# Altium integrated library Xilinx Spartan-II.IntLib: 120 symbols (part 8 of 15)
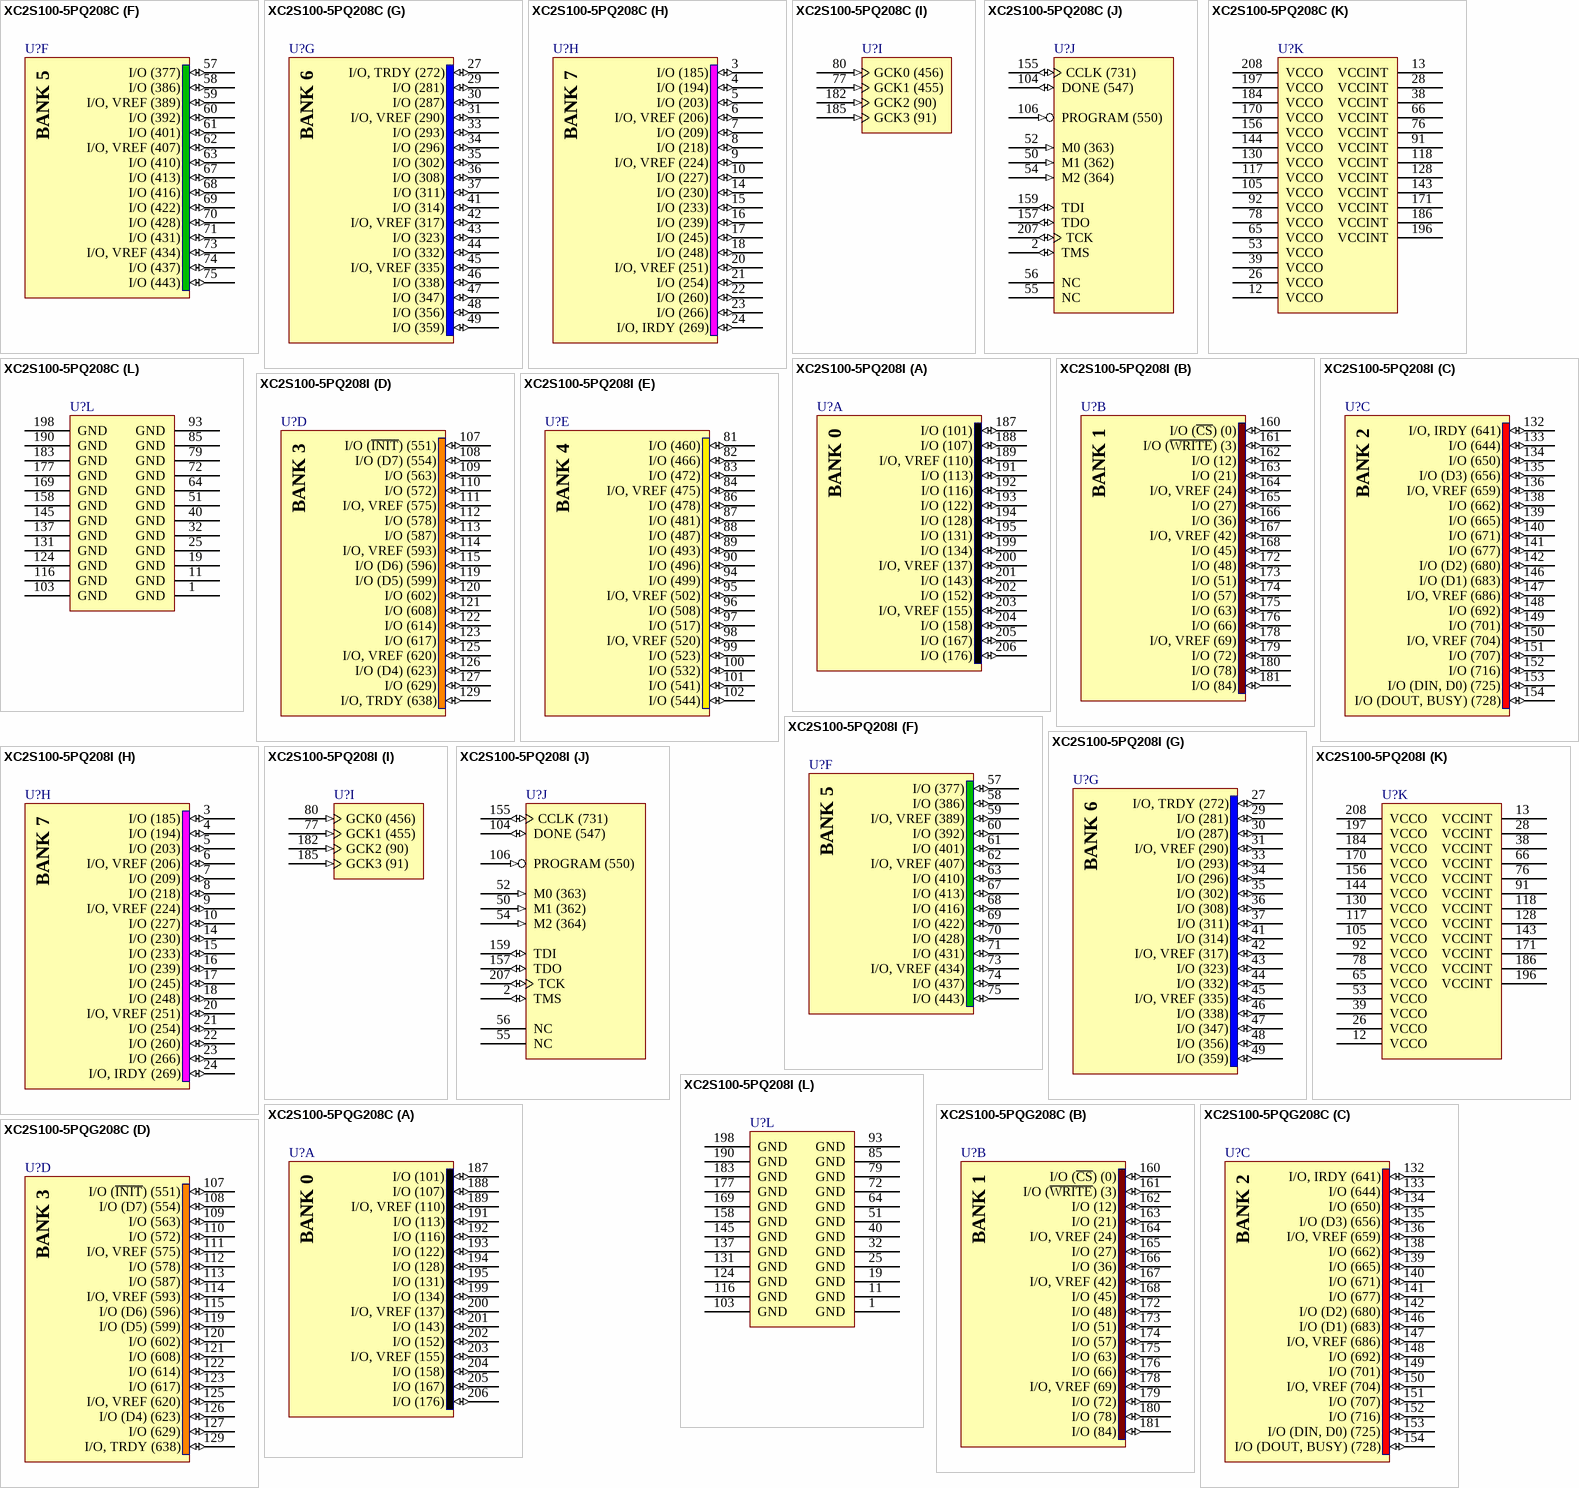
[diagram p78: symbols XC2S100-5PQ208C to XC2S100-5PQG208C]

## XC2S100-5PQ208C
designator U?
Spartan-II 2.5V FPGA, 140 User I/Os, 208-Pin PQFP, Standard Performance, Commercial Grade; Published: 13-Jul-2001; LatestRevisionDate: 16-Nov-2009; LatestRevisionNote: Updated to datasheet version 2.8 Jun-2008.; DatasheetVersion: ver2.8, Jun-2008; PackageVersion: ver1.2, Jun-2004; PackageReference: PQ208; Publisher: Altium Limited; PackageDescription: 208-Pin Plastic Quad Flat Pack (PQ208); Supplier 1: Digi-Key; Supplier Part Number 1: 122-1228-ND; Supplier 2: Newark; Supplier Part Number 2: 57K0438; Code_JEDEC: MS-029-FA-1; ComponentLink1Description: Spartan-II Datasheet; ComponentLink1URL: http://www.xilinx.com/support/documentation/data_sheets/ds001.pdf; ComponentLink2Description: PQ208 Package Drawing; ComponentLink2URL: http://www.xilinx.com/support/documentation/package_specs/pq208.pdf; ComponentLink3Description: Spartan-II Documents; ComponentLink3URL: http://www.xilinx.com/support/documentation/spartan-ii.htm; ComponentLink4Description: Xilinx.com Home; ComponentLink4URL: http://www.xilinx.com
footprint PQ208_N (Shrink QFP, 208-Leads, Body 28x28mm, Pitch 0.5mm, IPC Medium Density)
footprint PQ208_L (Shrink QFP, 208-Leads, Body 28x28mm, Pitch 0.5mm, IPC High Density)
footprint PQ208_M (Shrink QFP, 208-Leads, Body 28x28mm, Pitch 0.5mm, IPC Low Density)
signal-integrity model XC2S100_PQ208 (Spartan-II)
part A pins: 187 I/O (101) (io), 188 I/O (107) (io), 189 I/O, VREF (110) (io), 191 I/O (113) (io), 192 I/O (116) (io), 193 I/O (122) (io), 194 I/O (128) (io), 195 I/O (131) (io), 199 I/O (134) (io), 200 I/O, VREF (137) (io), 201 I/O (143) (io), 202 I/O (152) (io), 203 I/O, VREF (155) (io), 204 I/O (158) (io), 205 I/O (167) (io), 206 I/O (176) (io)
part B pins: 160 I/O (~{CS}) (0) (io), 161 I/O (~{WRITE}) (3) (io), 162 I/O (12) (io), 163 I/O (21) (io), 164 I/O, VREF (24) (io), 165 I/O (27) (io), 166 I/O (36) (io), 167 I/O, VREF (42) (io), 168 I/O (45) (io), 172 I/O (48) (io), 173 I/O (51) (io), 174 I/O (57) (io), 175 I/O (63) (io), 176 I/O (66) (io), 178 I/O, VREF (69) (io), 179 I/O (72) (io), 180 I/O (78) (io), 181 I/O (84) (io)
part C pins: 132 I/O, IRDY (641) (io), 133 I/O (644) (io), 134 I/O (650) (io), 135 I/O (D3) (656) (io), 136 I/O, VREF (659) (io), 138 I/O (662) (io), 139 I/O (665) (io), 140 I/O (671) (io), 141 I/O (677) (io), 142 I/O (D2) (680) (io), 146 I/O (D1) (683) (io), 147 I/O, VREF (686) (io), 148 I/O (692) (io), 149 I/O (701) (io), 150 I/O, VREF (704) (io), 151 I/O (707) (io), 152 I/O (716) (io), 153 I/O (DIN, D0) (725) (io), 154 I/O (DOUT, BUSY) (728) (io)
part D pins: 107 I/O (~{INIT}) (551) (io), 108 I/O (D7) (554) (io), 109 I/O (563) (io), 110 I/O (572) (io), 111 I/O, VREF (575) (io), 112 I/O (578) (io), 113 I/O (587) (io), 114 I/O, VREF (593) (io), 115 I/O (D6) (596) (io), 119 I/O (D5) (599) (io), 120 I/O (602) (io), 121 I/O (608) (io), 122 I/O (614) (io), 123 I/O (617) (io), 125 I/O, VREF (620) (io), 126 I/O (D4) (623) (io), 127 I/O (629) (io), 129 I/O, TRDY (638) (io)
part E pins: 81 I/O (460) (io), 82 I/O (466) (io), 83 I/O (472) (io), 84 I/O, VREF (475) (io), 86 I/O (478) (io), 87 I/O (481) (io), 88 I/O (487) (io), 89 I/O (493) (io), 90 I/O (496) (io), 94 I/O (499) (io), 95 I/O, VREF (502) (io), 96 I/O (508) (io), 97 I/O (517) (io), 98 I/O, VREF (520) (io), 99 I/O (523) (io), 100 I/O (532) (io), 101 I/O (541) (io), 102 I/O (544) (io)
part F pins: 57 I/O (377) (io), 58 I/O (386) (io), 59 I/O, VREF (389) (io), 60 I/O (392) (io), 61 I/O (401) (io), 62 I/O, VREF (407) (io), 63 I/O (410) (io), 67 I/O (413) (io), 68 I/O (416) (io), 69 I/O (422) (io), 70 I/O (428) (io), 71 I/O (431) (io), 73 I/O, VREF (434) (io), 74 I/O (437) (io), 75 I/O (443) (io)
part G pins: 27 I/O, TRDY (272) (io), 29 I/O (281) (io), 30 I/O (287) (io), 31 I/O, VREF (290) (io), 33 I/O (293) (io), 34 I/O (296) (io), 35 I/O (302) (io), 36 I/O (308) (io), 37 I/O (311) (io), 41 I/O (314) (io), 42 I/O, VREF (317) (io), 43 I/O (323) (io), 44 I/O (332) (io), 45 I/O, VREF (335) (io), 46 I/O (338) (io), 47 I/O (347) (io), 48 I/O (356) (io), 49 I/O (359) (io)
part H pins: 3 I/O (185) (io), 4 I/O (194) (io), 5 I/O (203) (io), 6 I/O, VREF (206) (io), 7 I/O (209) (io), 8 I/O (218) (io), 9 I/O, VREF (224) (io), 10 I/O (227) (io), 14 I/O (230) (io), 15 I/O (233) (io), 16 I/O (239) (io), 17 I/O (245) (io), 18 I/O (248) (io), 20 I/O, VREF (251) (io), 21 I/O (254) (io), 22 I/O (260) (io), 23 I/O (266) (io), 24 I/O, IRDY (269) (io)
part I pins: 77 GCK1 (455) (in), 80 GCK0 (456) (in), 182 GCK2 (90) (in), 185 GCK3 (91) (in)
part J pins: 2 TMS (io), 50 M1 (362) (in), 52 M0 (363) (in), 54 M2 (364) (in), 55 NC, 56 NC, 104 DONE (547) (io), 106 PROGRAM (550) (in), 155 CCLK (731) (io), 157 TDO (io), 159 TDI (io), 207 TCK (io)
part K pins: 12 VCCO (power), 13 VCCINT (power), 26 VCCO (power), 28 VCCINT (power), 38 VCCINT (power), 39 VCCO (power), 53 VCCO (power), 65 VCCO (power), 66 VCCINT (power), 76 VCCINT (power), 78 VCCO (power), 91 VCCINT (power), 92 VCCO (power), 105 VCCO (power), 117 VCCO (power), 118 VCCINT (power), 128 VCCINT (power), 130 VCCO (power), 143 VCCINT (power), 144 VCCO (power), 156 VCCO (power), 170 VCCO (power), 171 VCCINT (power), 184 VCCO (power), 186 VCCINT (power), 196 VCCINT (power), 197 VCCO (power), 208 VCCO (power)
part L pins: 1 GND (power), 11 GND (power), 19 GND (power), 25 GND (power), 32 GND (power), 40 GND (power), 51 GND (power), 64 GND (power), 72 GND (power), 79 GND (power), 85 GND (power), 93 GND (power), 103 GND (power), 116 GND (power), 124 GND (power), 131 GND (power), 137 GND (power), 145 GND (power), 158 GND (power), 169 GND (power), 177 GND (power), 183 GND (power), 190 GND (power), 198 GND (power)
part A text: BANK 0
part B text: BANK 1
part C text: BANK 2
part D text: BANK 3
part E text: BANK 4
part F text: BANK 5
part G text: BANK 6
part H text: BANK 7

## XC2S100-5PQ208I
designator U?
Spartan-II 2.5V FPGA, 140 User I/Os, 208-Pin PQFP, Standard Performance, Industrial Grade; Published: 13-Jul-2001; LatestRevisionDate: 16-Nov-2009; LatestRevisionNote: Updated to datasheet version 2.8 Jun-2008.; DatasheetVersion: ver2.8, Jun-2008; PackageVersion: ver1.2, Jun-2004; PackageReference: PQ208; Publisher: Altium Limited; PackageDescription: 208-Pin Plastic Quad Flat Pack (PQ208); Supplier 1: Digi-Key; Supplier Part Number 1: XC2S100-5PQ208I-ND; Code_JEDEC: MS-029-FA-1; ComponentLink1Description: Spartan-II Datasheet; ComponentLink1URL: http://www.xilinx.com/support/documentation/data_sheets/ds001.pdf; ComponentLink2Description: PQ208 Package Drawing; ComponentLink2URL: http://www.xilinx.com/support/documentation/package_specs/pq208.pdf; ComponentLink3Description: Spartan-II Documents; ComponentLink3URL: http://www.xilinx.com/support/documentation/spartan-ii.htm; ComponentLink4Description: Xilinx.com Home; ComponentLink4URL: http://www.xilinx.com
footprint PQ208_N (Shrink QFP, 208-Leads, Body 28x28mm, Pitch 0.5mm, IPC Medium Density)
footprint PQ208_L (Shrink QFP, 208-Leads, Body 28x28mm, Pitch 0.5mm, IPC High Density)
footprint PQ208_M (Shrink QFP, 208-Leads, Body 28x28mm, Pitch 0.5mm, IPC Low Density)
signal-integrity model XC2S100_PQ208 (Spartan-II)
part A pins: 187 I/O (101) (io), 188 I/O (107) (io), 189 I/O, VREF (110) (io), 191 I/O (113) (io), 192 I/O (116) (io), 193 I/O (122) (io), 194 I/O (128) (io), 195 I/O (131) (io), 199 I/O (134) (io), 200 I/O, VREF (137) (io), 201 I/O (143) (io), 202 I/O (152) (io), 203 I/O, VREF (155) (io), 204 I/O (158) (io), 205 I/O (167) (io), 206 I/O (176) (io)
part B pins: 160 I/O (~{CS}) (0) (io), 161 I/O (~{WRITE}) (3) (io), 162 I/O (12) (io), 163 I/O (21) (io), 164 I/O, VREF (24) (io), 165 I/O (27) (io), 166 I/O (36) (io), 167 I/O, VREF (42) (io), 168 I/O (45) (io), 172 I/O (48) (io), 173 I/O (51) (io), 174 I/O (57) (io), 175 I/O (63) (io), 176 I/O (66) (io), 178 I/O, VREF (69) (io), 179 I/O (72) (io), 180 I/O (78) (io), 181 I/O (84) (io)
part C pins: 132 I/O, IRDY (641) (io), 133 I/O (644) (io), 134 I/O (650) (io), 135 I/O (D3) (656) (io), 136 I/O, VREF (659) (io), 138 I/O (662) (io), 139 I/O (665) (io), 140 I/O (671) (io), 141 I/O (677) (io), 142 I/O (D2) (680) (io), 146 I/O (D1) (683) (io), 147 I/O, VREF (686) (io), 148 I/O (692) (io), 149 I/O (701) (io), 150 I/O, VREF (704) (io), 151 I/O (707) (io), 152 I/O (716) (io), 153 I/O (DIN, D0) (725) (io), 154 I/O (DOUT, BUSY) (728) (io)
part D pins: 107 I/O (~{INIT}) (551) (io), 108 I/O (D7) (554) (io), 109 I/O (563) (io), 110 I/O (572) (io), 111 I/O, VREF (575) (io), 112 I/O (578) (io), 113 I/O (587) (io), 114 I/O, VREF (593) (io), 115 I/O (D6) (596) (io), 119 I/O (D5) (599) (io), 120 I/O (602) (io), 121 I/O (608) (io), 122 I/O (614) (io), 123 I/O (617) (io), 125 I/O, VREF (620) (io), 126 I/O (D4) (623) (io), 127 I/O (629) (io), 129 I/O, TRDY (638) (io)
part E pins: 81 I/O (460) (io), 82 I/O (466) (io), 83 I/O (472) (io), 84 I/O, VREF (475) (io), 86 I/O (478) (io), 87 I/O (481) (io), 88 I/O (487) (io), 89 I/O (493) (io), 90 I/O (496) (io), 94 I/O (499) (io), 95 I/O, VREF (502) (io), 96 I/O (508) (io), 97 I/O (517) (io), 98 I/O, VREF (520) (io), 99 I/O (523) (io), 100 I/O (532) (io), 101 I/O (541) (io), 102 I/O (544) (io)
part F pins: 57 I/O (377) (io), 58 I/O (386) (io), 59 I/O, VREF (389) (io), 60 I/O (392) (io), 61 I/O (401) (io), 62 I/O, VREF (407) (io), 63 I/O (410) (io), 67 I/O (413) (io), 68 I/O (416) (io), 69 I/O (422) (io), 70 I/O (428) (io), 71 I/O (431) (io), 73 I/O, VREF (434) (io), 74 I/O (437) (io), 75 I/O (443) (io)
part G pins: 27 I/O, TRDY (272) (io), 29 I/O (281) (io), 30 I/O (287) (io), 31 I/O, VREF (290) (io), 33 I/O (293) (io), 34 I/O (296) (io), 35 I/O (302) (io), 36 I/O (308) (io), 37 I/O (311) (io), 41 I/O (314) (io), 42 I/O, VREF (317) (io), 43 I/O (323) (io), 44 I/O (332) (io), 45 I/O, VREF (335) (io), 46 I/O (338) (io), 47 I/O (347) (io), 48 I/O (356) (io), 49 I/O (359) (io)
part H pins: 3 I/O (185) (io), 4 I/O (194) (io), 5 I/O (203) (io), 6 I/O, VREF (206) (io), 7 I/O (209) (io), 8 I/O (218) (io), 9 I/O, VREF (224) (io), 10 I/O (227) (io), 14 I/O (230) (io), 15 I/O (233) (io), 16 I/O (239) (io), 17 I/O (245) (io), 18 I/O (248) (io), 20 I/O, VREF (251) (io), 21 I/O (254) (io), 22 I/O (260) (io), 23 I/O (266) (io), 24 I/O, IRDY (269) (io)
part I pins: 77 GCK1 (455) (in), 80 GCK0 (456) (in), 182 GCK2 (90) (in), 185 GCK3 (91) (in)
part J pins: 2 TMS (io), 50 M1 (362) (in), 52 M0 (363) (in), 54 M2 (364) (in), 55 NC, 56 NC, 104 DONE (547) (io), 106 PROGRAM (550) (in), 155 CCLK (731) (io), 157 TDO (io), 159 TDI (io), 207 TCK (io)
part K pins: 12 VCCO (power), 13 VCCINT (power), 26 VCCO (power), 28 VCCINT (power), 38 VCCINT (power), 39 VCCO (power), 53 VCCO (power), 65 VCCO (power), 66 VCCINT (power), 76 VCCINT (power), 78 VCCO (power), 91 VCCINT (power), 92 VCCO (power), 105 VCCO (power), 117 VCCO (power), 118 VCCINT (power), 128 VCCINT (power), 130 VCCO (power), 143 VCCINT (power), 144 VCCO (power), 156 VCCO (power), 170 VCCO (power), 171 VCCINT (power), 184 VCCO (power), 186 VCCINT (power), 196 VCCINT (power), 197 VCCO (power), 208 VCCO (power)
part L pins: 1 GND (power), 11 GND (power), 19 GND (power), 25 GND (power), 32 GND (power), 40 GND (power), 51 GND (power), 64 GND (power), 72 GND (power), 79 GND (power), 85 GND (power), 93 GND (power), 103 GND (power), 116 GND (power), 124 GND (power), 131 GND (power), 137 GND (power), 145 GND (power), 158 GND (power), 169 GND (power), 177 GND (power), 183 GND (power), 190 GND (power), 198 GND (power)
part A text: BANK 0
part B text: BANK 1
part C text: BANK 2
part D text: BANK 3
part E text: BANK 4
part F text: BANK 5
part G text: BANK 6
part H text: BANK 7

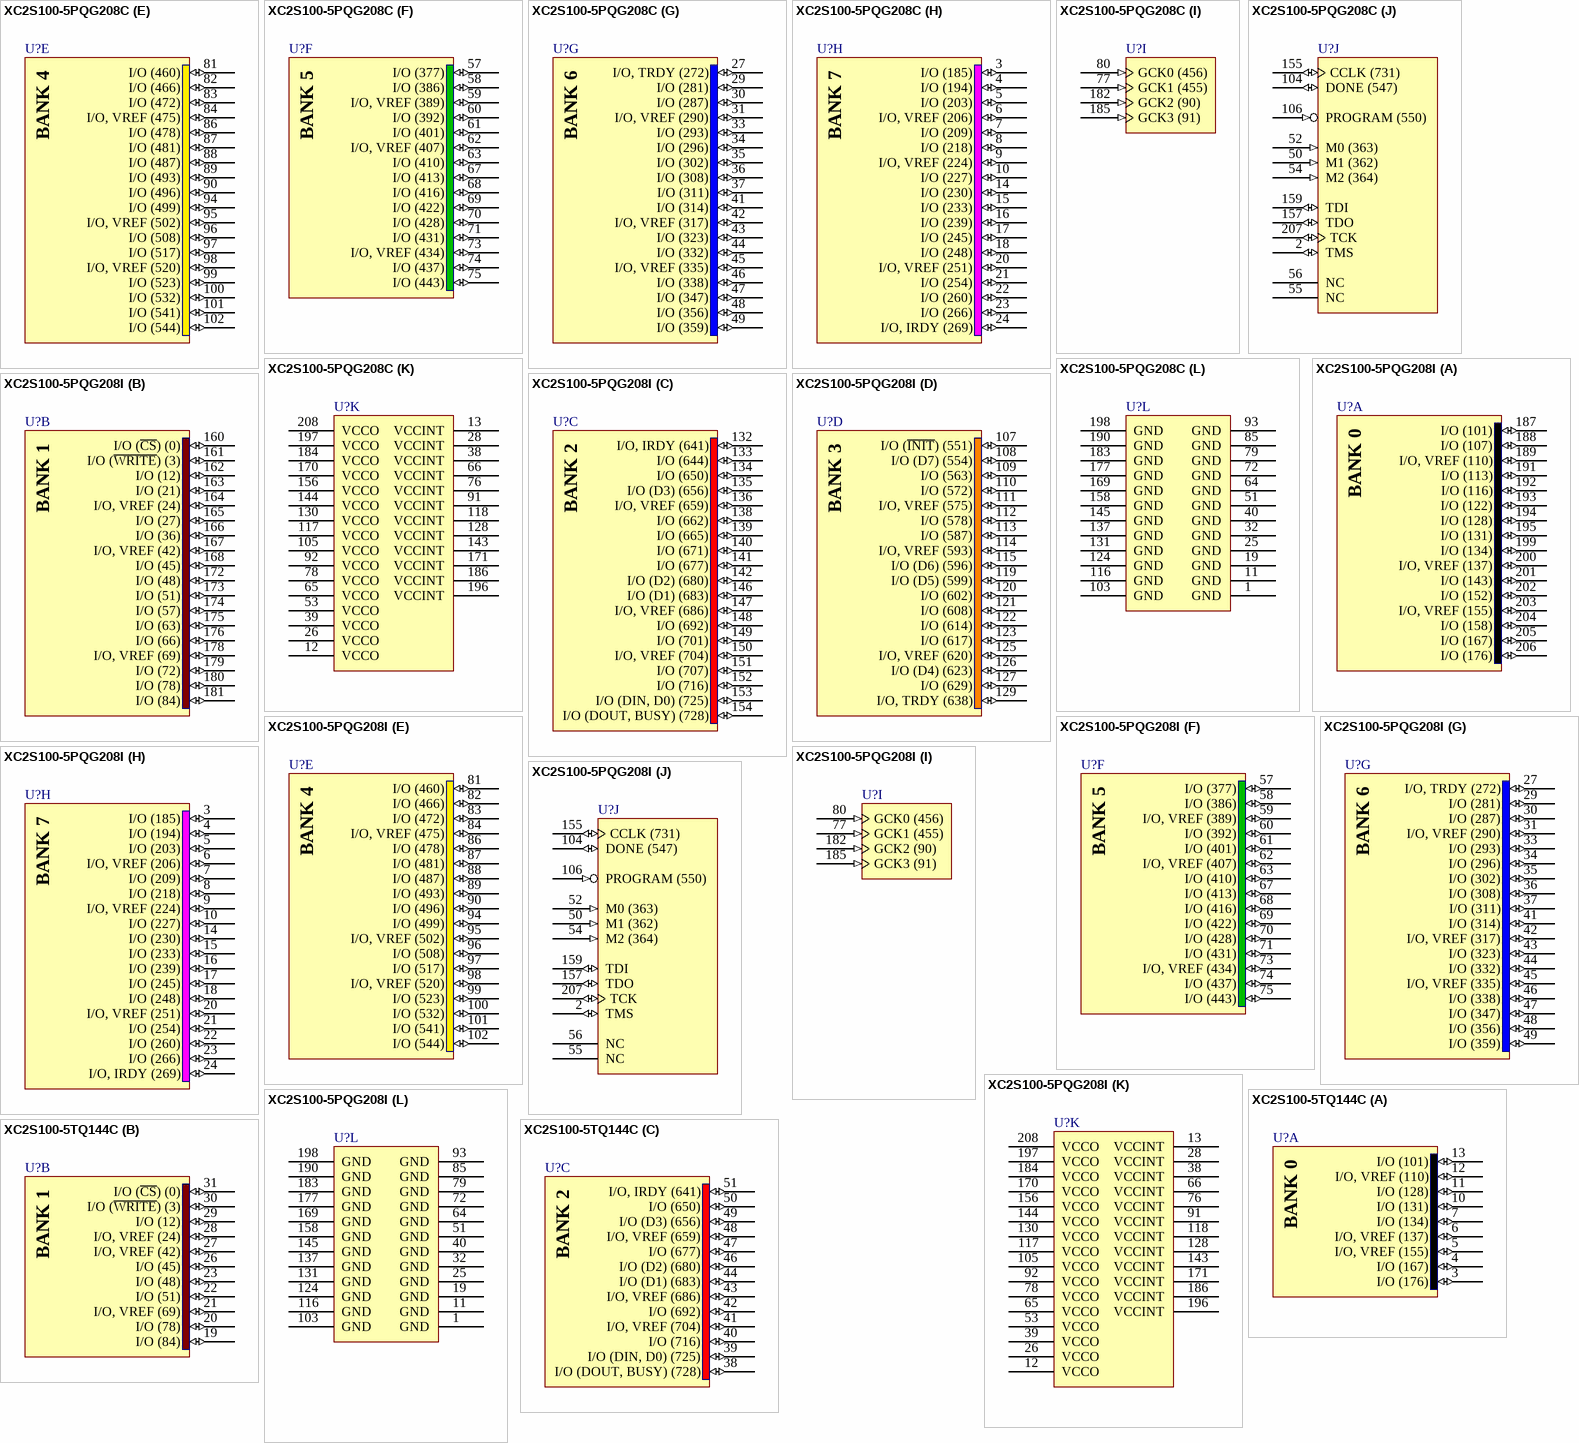
[diagram p35: symbols XC2S100-5PQG208C to XC2S100-5TQ144C]

## XC2S100-5PQG208C
designator U?
Spartan-II 2.5V FPGA, 140 User I/Os, 208-Pin PQFP, Standard Performance, Commercial Grade, Pb-Free; Published: 2-Mar-2006; LatestRevisionDate: 16-Nov-2009; LatestRevisionNote: Updated to datasheet version 2.8 Jun-2008.; DatasheetVersion: ver2.8, Jun-2008; PackageVersion: ver1.2, Jun-2004; PackageReference: PQG208; Publisher: Altium Limited; PackageDescription: 208-Pin Plastic Quad Flat Pack (PQG208) - Pb-Free; Supplier 1: Digi-Key; Supplier Part Number 1: 122-1304-ND; Supplier 2: Newark; Supplier Part Number 2: 20M0880; Code_JEDEC: MS-029-FA-1; ComponentLink1Description: Spartan-II Datasheet; ComponentLink1URL: http://www.xilinx.com/support/documentation/data_sheets/ds001.pdf; ComponentLink2Description: PQG208 Package Drawing; ComponentLink2URL: http://www.xilinx.com/support/documentation/package_specs/pq208.pdf; ComponentLink3Description: Spartan-II Documents; ComponentLink3URL: http://www.xilinx.com/support/documentation/spartan-ii.htm; ComponentLink4Description: Xilinx.com Home; ComponentLink4URL: http://www.xilinx.com
footprint PQG208_N (Shrink QFP, 208-Leads, Body 28x28mm, Pitch 0.5mm, IPC Medium Density)
footprint PQG208_L (Shrink QFP, 208-Leads, Body 28x28mm, Pitch 0.5mm, IPC High Density)
footprint PQG208_M (Shrink QFP, 208-Leads, Body 28x28mm, Pitch 0.5mm, IPC Low Density)
signal-integrity model XC2S100_PQG208 (Spartan-II)
part A pins: 187 I/O (101) (io), 188 I/O (107) (io), 189 I/O, VREF (110) (io), 191 I/O (113) (io), 192 I/O (116) (io), 193 I/O (122) (io), 194 I/O (128) (io), 195 I/O (131) (io), 199 I/O (134) (io), 200 I/O, VREF (137) (io), 201 I/O (143) (io), 202 I/O (152) (io), 203 I/O, VREF (155) (io), 204 I/O (158) (io), 205 I/O (167) (io), 206 I/O (176) (io)
part B pins: 160 I/O (~{CS}) (0) (io), 161 I/O (~{WRITE}) (3) (io), 162 I/O (12) (io), 163 I/O (21) (io), 164 I/O, VREF (24) (io), 165 I/O (27) (io), 166 I/O (36) (io), 167 I/O, VREF (42) (io), 168 I/O (45) (io), 172 I/O (48) (io), 173 I/O (51) (io), 174 I/O (57) (io), 175 I/O (63) (io), 176 I/O (66) (io), 178 I/O, VREF (69) (io), 179 I/O (72) (io), 180 I/O (78) (io), 181 I/O (84) (io)
part C pins: 132 I/O, IRDY (641) (io), 133 I/O (644) (io), 134 I/O (650) (io), 135 I/O (D3) (656) (io), 136 I/O, VREF (659) (io), 138 I/O (662) (io), 139 I/O (665) (io), 140 I/O (671) (io), 141 I/O (677) (io), 142 I/O (D2) (680) (io), 146 I/O (D1) (683) (io), 147 I/O, VREF (686) (io), 148 I/O (692) (io), 149 I/O (701) (io), 150 I/O, VREF (704) (io), 151 I/O (707) (io), 152 I/O (716) (io), 153 I/O (DIN, D0) (725) (io), 154 I/O (DOUT, BUSY) (728) (io)
part D pins: 107 I/O (~{INIT}) (551) (io), 108 I/O (D7) (554) (io), 109 I/O (563) (io), 110 I/O (572) (io), 111 I/O, VREF (575) (io), 112 I/O (578) (io), 113 I/O (587) (io), 114 I/O, VREF (593) (io), 115 I/O (D6) (596) (io), 119 I/O (D5) (599) (io), 120 I/O (602) (io), 121 I/O (608) (io), 122 I/O (614) (io), 123 I/O (617) (io), 125 I/O, VREF (620) (io), 126 I/O (D4) (623) (io), 127 I/O (629) (io), 129 I/O, TRDY (638) (io)
part E pins: 81 I/O (460) (io), 82 I/O (466) (io), 83 I/O (472) (io), 84 I/O, VREF (475) (io), 86 I/O (478) (io), 87 I/O (481) (io), 88 I/O (487) (io), 89 I/O (493) (io), 90 I/O (496) (io), 94 I/O (499) (io), 95 I/O, VREF (502) (io), 96 I/O (508) (io), 97 I/O (517) (io), 98 I/O, VREF (520) (io), 99 I/O (523) (io), 100 I/O (532) (io), 101 I/O (541) (io), 102 I/O (544) (io)
part F pins: 57 I/O (377) (io), 58 I/O (386) (io), 59 I/O, VREF (389) (io), 60 I/O (392) (io), 61 I/O (401) (io), 62 I/O, VREF (407) (io), 63 I/O (410) (io), 67 I/O (413) (io), 68 I/O (416) (io), 69 I/O (422) (io), 70 I/O (428) (io), 71 I/O (431) (io), 73 I/O, VREF (434) (io), 74 I/O (437) (io), 75 I/O (443) (io)
part G pins: 27 I/O, TRDY (272) (io), 29 I/O (281) (io), 30 I/O (287) (io), 31 I/O, VREF (290) (io), 33 I/O (293) (io), 34 I/O (296) (io), 35 I/O (302) (io), 36 I/O (308) (io), 37 I/O (311) (io), 41 I/O (314) (io), 42 I/O, VREF (317) (io), 43 I/O (323) (io), 44 I/O (332) (io), 45 I/O, VREF (335) (io), 46 I/O (338) (io), 47 I/O (347) (io), 48 I/O (356) (io), 49 I/O (359) (io)
part H pins: 3 I/O (185) (io), 4 I/O (194) (io), 5 I/O (203) (io), 6 I/O, VREF (206) (io), 7 I/O (209) (io), 8 I/O (218) (io), 9 I/O, VREF (224) (io), 10 I/O (227) (io), 14 I/O (230) (io), 15 I/O (233) (io), 16 I/O (239) (io), 17 I/O (245) (io), 18 I/O (248) (io), 20 I/O, VREF (251) (io), 21 I/O (254) (io), 22 I/O (260) (io), 23 I/O (266) (io), 24 I/O, IRDY (269) (io)
part I pins: 77 GCK1 (455) (in), 80 GCK0 (456) (in), 182 GCK2 (90) (in), 185 GCK3 (91) (in)
part J pins: 2 TMS (io), 50 M1 (362) (in), 52 M0 (363) (in), 54 M2 (364) (in), 55 NC, 56 NC, 104 DONE (547) (io), 106 PROGRAM (550) (in), 155 CCLK (731) (io), 157 TDO (io), 159 TDI (io), 207 TCK (io)
part K pins: 12 VCCO (power), 13 VCCINT (power), 26 VCCO (power), 28 VCCINT (power), 38 VCCINT (power), 39 VCCO (power), 53 VCCO (power), 65 VCCO (power), 66 VCCINT (power), 76 VCCINT (power), 78 VCCO (power), 91 VCCINT (power), 92 VCCO (power), 105 VCCO (power), 117 VCCO (power), 118 VCCINT (power), 128 VCCINT (power), 130 VCCO (power), 143 VCCINT (power), 144 VCCO (power), 156 VCCO (power), 170 VCCO (power), 171 VCCINT (power), 184 VCCO (power), 186 VCCINT (power), 196 VCCINT (power), 197 VCCO (power), 208 VCCO (power)
part L pins: 1 GND (power), 11 GND (power), 19 GND (power), 25 GND (power), 32 GND (power), 40 GND (power), 51 GND (power), 64 GND (power), 72 GND (power), 79 GND (power), 85 GND (power), 93 GND (power), 103 GND (power), 116 GND (power), 124 GND (power), 131 GND (power), 137 GND (power), 145 GND (power), 158 GND (power), 169 GND (power), 177 GND (power), 183 GND (power), 190 GND (power), 198 GND (power)
part A text: BANK 0
part B text: BANK 1
part C text: BANK 2
part D text: BANK 3
part E text: BANK 4
part F text: BANK 5
part G text: BANK 6
part H text: BANK 7

## XC2S100-5PQG208I
designator U?
Spartan-II 2.5V FPGA, 140 User I/Os, 208-Pin PQFP, Standard Performance, Industrial Grade, Pb-Free; Published: 2-Mar-2006; LatestRevisionDate: 16-Nov-2009; LatestRevisionNote: Updated to datasheet version 2.8 Jun-2008.; DatasheetVersion: ver2.8, Jun-2008; PackageVersion: ver1.2, Jun-2004; PackageReference: PQG208; Publisher: Altium Limited; PackageDescription: 208-Pin Plastic Quad Flat Pack (PQG208) - Pb-Free; Code_JEDEC: MS-029-FA-1; ComponentLink1Description: Spartan-II Datasheet; ComponentLink1URL: http://www.xilinx.com/support/documentation/data_sheets/ds001.pdf; ComponentLink2Description: PQG208 Package Drawing; ComponentLink2URL: http://www.xilinx.com/support/documentation/package_specs/pq208.pdf; ComponentLink3Description: Spartan-II Documents; ComponentLink3URL: http://www.xilinx.com/support/documentation/spartan-ii.htm; ComponentLink4Description: Xilinx.com Home; ComponentLink4URL: http://www.xilinx.com
footprint PQG208_N (Shrink QFP, 208-Leads, Body 28x28mm, Pitch 0.5mm, IPC Medium Density)
footprint PQG208_L (Shrink QFP, 208-Leads, Body 28x28mm, Pitch 0.5mm, IPC High Density)
footprint PQG208_M (Shrink QFP, 208-Leads, Body 28x28mm, Pitch 0.5mm, IPC Low Density)
signal-integrity model XC2S100_PQG208 (Spartan-II)
part A pins: 187 I/O (101) (io), 188 I/O (107) (io), 189 I/O, VREF (110) (io), 191 I/O (113) (io), 192 I/O (116) (io), 193 I/O (122) (io), 194 I/O (128) (io), 195 I/O (131) (io), 199 I/O (134) (io), 200 I/O, VREF (137) (io), 201 I/O (143) (io), 202 I/O (152) (io), 203 I/O, VREF (155) (io), 204 I/O (158) (io), 205 I/O (167) (io), 206 I/O (176) (io)
part B pins: 160 I/O (~{CS}) (0) (io), 161 I/O (~{WRITE}) (3) (io), 162 I/O (12) (io), 163 I/O (21) (io), 164 I/O, VREF (24) (io), 165 I/O (27) (io), 166 I/O (36) (io), 167 I/O, VREF (42) (io), 168 I/O (45) (io), 172 I/O (48) (io), 173 I/O (51) (io), 174 I/O (57) (io), 175 I/O (63) (io), 176 I/O (66) (io), 178 I/O, VREF (69) (io), 179 I/O (72) (io), 180 I/O (78) (io), 181 I/O (84) (io)
part C pins: 132 I/O, IRDY (641) (io), 133 I/O (644) (io), 134 I/O (650) (io), 135 I/O (D3) (656) (io), 136 I/O, VREF (659) (io), 138 I/O (662) (io), 139 I/O (665) (io), 140 I/O (671) (io), 141 I/O (677) (io), 142 I/O (D2) (680) (io), 146 I/O (D1) (683) (io), 147 I/O, VREF (686) (io), 148 I/O (692) (io), 149 I/O (701) (io), 150 I/O, VREF (704) (io), 151 I/O (707) (io), 152 I/O (716) (io), 153 I/O (DIN, D0) (725) (io), 154 I/O (DOUT, BUSY) (728) (io)
part D pins: 107 I/O (~{INIT}) (551) (io), 108 I/O (D7) (554) (io), 109 I/O (563) (io), 110 I/O (572) (io), 111 I/O, VREF (575) (io), 112 I/O (578) (io), 113 I/O (587) (io), 114 I/O, VREF (593) (io), 115 I/O (D6) (596) (io), 119 I/O (D5) (599) (io), 120 I/O (602) (io), 121 I/O (608) (io), 122 I/O (614) (io), 123 I/O (617) (io), 125 I/O, VREF (620) (io), 126 I/O (D4) (623) (io), 127 I/O (629) (io), 129 I/O, TRDY (638) (io)
part E pins: 81 I/O (460) (io), 82 I/O (466) (io), 83 I/O (472) (io), 84 I/O, VREF (475) (io), 86 I/O (478) (io), 87 I/O (481) (io), 88 I/O (487) (io), 89 I/O (493) (io), 90 I/O (496) (io), 94 I/O (499) (io), 95 I/O, VREF (502) (io), 96 I/O (508) (io), 97 I/O (517) (io), 98 I/O, VREF (520) (io), 99 I/O (523) (io), 100 I/O (532) (io), 101 I/O (541) (io), 102 I/O (544) (io)
part F pins: 57 I/O (377) (io), 58 I/O (386) (io), 59 I/O, VREF (389) (io), 60 I/O (392) (io), 61 I/O (401) (io), 62 I/O, VREF (407) (io), 63 I/O (410) (io), 67 I/O (413) (io), 68 I/O (416) (io), 69 I/O (422) (io), 70 I/O (428) (io), 71 I/O (431) (io), 73 I/O, VREF (434) (io), 74 I/O (437) (io), 75 I/O (443) (io)
part G pins: 27 I/O, TRDY (272) (io), 29 I/O (281) (io), 30 I/O (287) (io), 31 I/O, VREF (290) (io), 33 I/O (293) (io), 34 I/O (296) (io), 35 I/O (302) (io), 36 I/O (308) (io), 37 I/O (311) (io), 41 I/O (314) (io), 42 I/O, VREF (317) (io), 43 I/O (323) (io), 44 I/O (332) (io), 45 I/O, VREF (335) (io), 46 I/O (338) (io), 47 I/O (347) (io), 48 I/O (356) (io), 49 I/O (359) (io)
part H pins: 3 I/O (185) (io), 4 I/O (194) (io), 5 I/O (203) (io), 6 I/O, VREF (206) (io), 7 I/O (209) (io), 8 I/O (218) (io), 9 I/O, VREF (224) (io), 10 I/O (227) (io), 14 I/O (230) (io), 15 I/O (233) (io), 16 I/O (239) (io), 17 I/O (245) (io), 18 I/O (248) (io), 20 I/O, VREF (251) (io), 21 I/O (254) (io), 22 I/O (260) (io), 23 I/O (266) (io), 24 I/O, IRDY (269) (io)
part I pins: 77 GCK1 (455) (in), 80 GCK0 (456) (in), 182 GCK2 (90) (in), 185 GCK3 (91) (in)
part J pins: 2 TMS (io), 50 M1 (362) (in), 52 M0 (363) (in), 54 M2 (364) (in), 55 NC, 56 NC, 104 DONE (547) (io), 106 PROGRAM (550) (in), 155 CCLK (731) (io), 157 TDO (io), 159 TDI (io), 207 TCK (io)
part K pins: 12 VCCO (power), 13 VCCINT (power), 26 VCCO (power), 28 VCCINT (power), 38 VCCINT (power), 39 VCCO (power), 53 VCCO (power), 65 VCCO (power), 66 VCCINT (power), 76 VCCINT (power), 78 VCCO (power), 91 VCCINT (power), 92 VCCO (power), 105 VCCO (power), 117 VCCO (power), 118 VCCINT (power), 128 VCCINT (power), 130 VCCO (power), 143 VCCINT (power), 144 VCCO (power), 156 VCCO (power), 170 VCCO (power), 171 VCCINT (power), 184 VCCO (power), 186 VCCINT (power), 196 VCCINT (power), 197 VCCO (power), 208 VCCO (power)
part L pins: 1 GND (power), 11 GND (power), 19 GND (power), 25 GND (power), 32 GND (power), 40 GND (power), 51 GND (power), 64 GND (power), 72 GND (power), 79 GND (power), 85 GND (power), 93 GND (power), 103 GND (power), 116 GND (power), 124 GND (power), 131 GND (power), 137 GND (power), 145 GND (power), 158 GND (power), 169 GND (power), 177 GND (power), 183 GND (power), 190 GND (power), 198 GND (power)
part A text: BANK 0
part B text: BANK 1
part C text: BANK 2
part D text: BANK 3
part E text: BANK 4
part F text: BANK 5
part G text: BANK 6
part H text: BANK 7

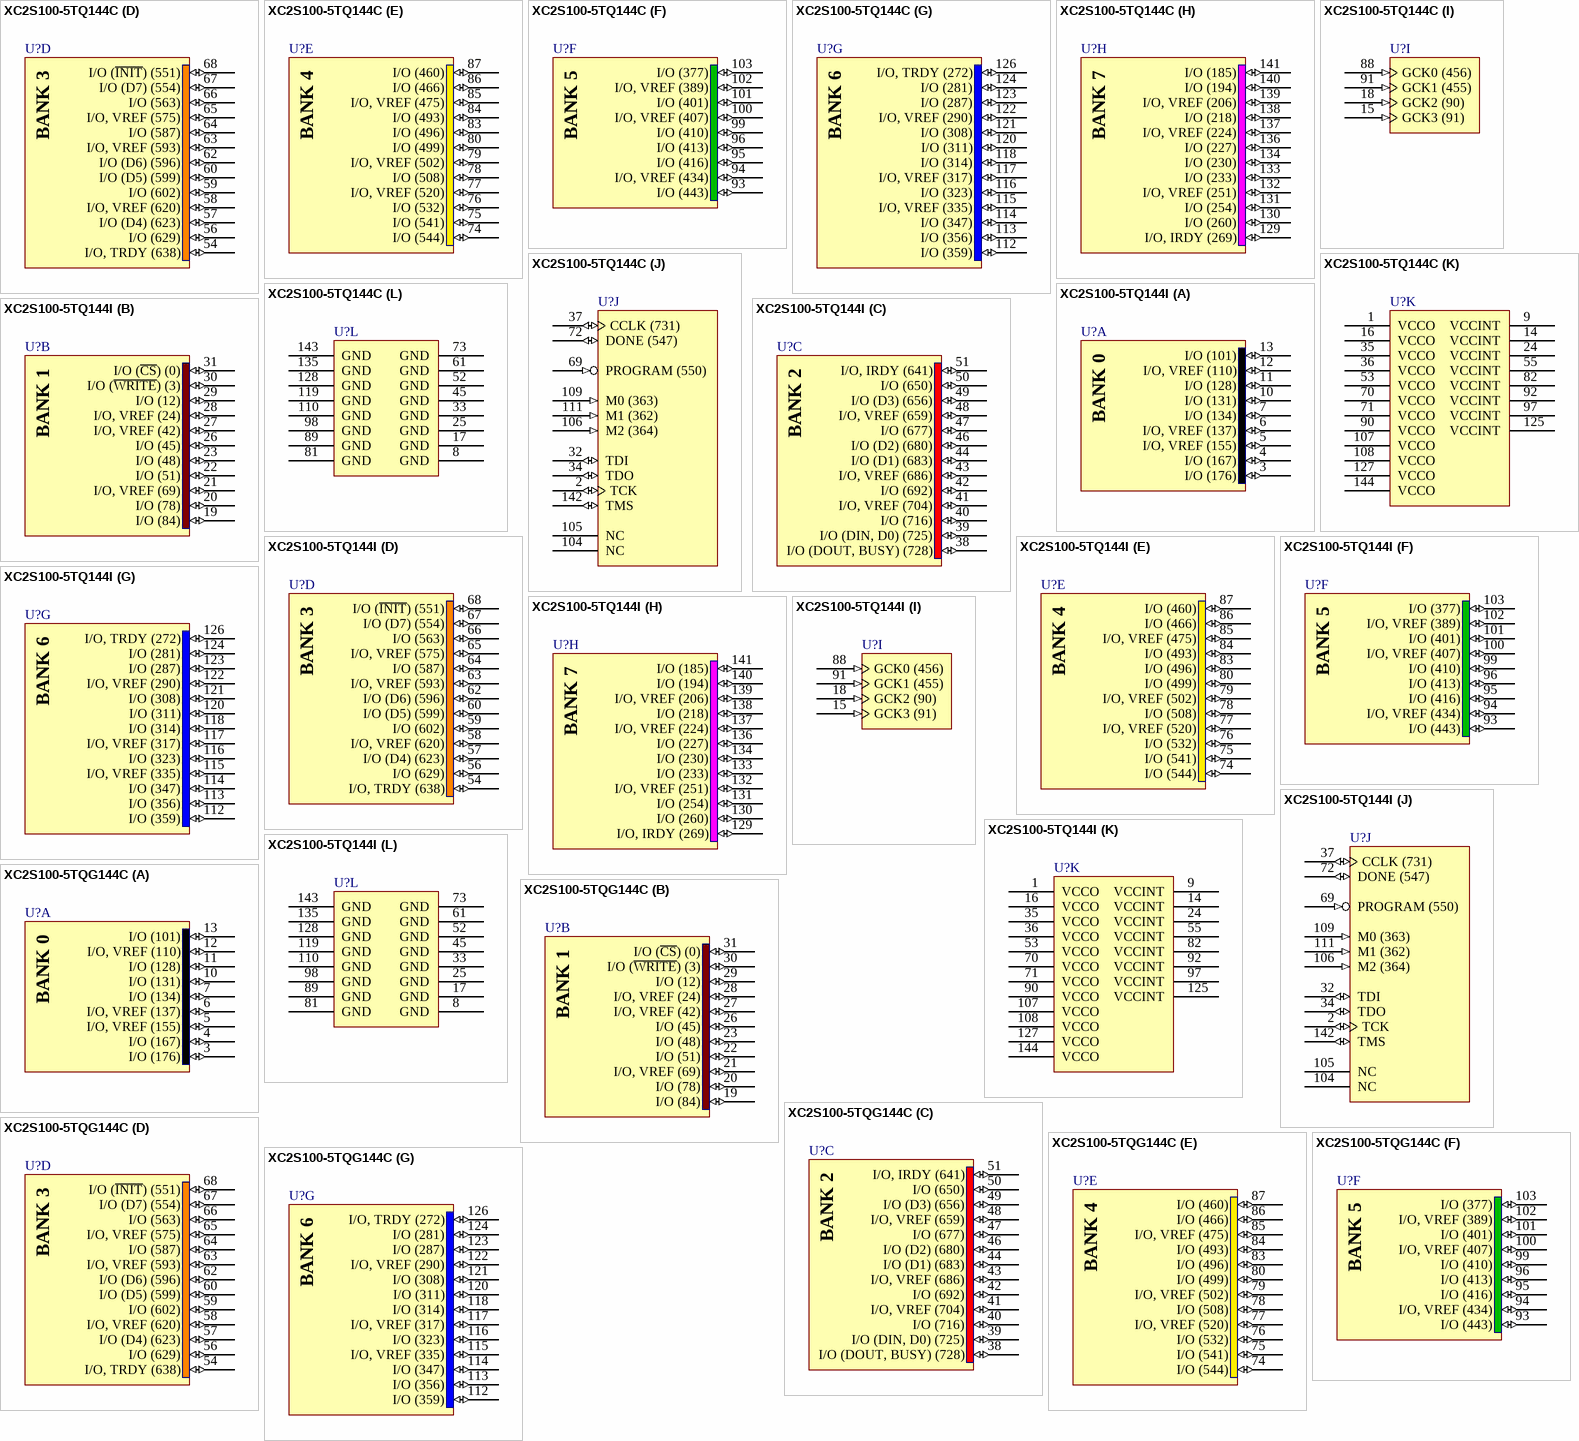
[diagram p36: symbols XC2S100-5TQ144C to XC2S100-5TQG144C]

## XC2S100-5TQ144C
designator U?
Spartan-II 2.5V FPGA, 92 User I/Os, 144-Pin TQFP, Standard Performance, Commercial Grade; Published: 13-Jul-2001; LatestRevisionDate: 16-Nov-2009; LatestRevisionNote: Updated to datasheet version 2.8 Jun-2008.; DatasheetVersion: ver2.8, Jun-2008; PackageVersion: ver1.2, Jun-2004; PackageReference: TQ144; Publisher: Altium Limited; PackageDescription: 144-Pin Thin Quad Flat Pack (TQ144); Supplier 1: Digi-Key; Supplier Part Number 1: 122-1229-ND; Supplier 2: Newark; Supplier Part Number 2: 57J4522; Code_JEDEC: MS-026-BFB; ComponentLink1Description: Spartan-II Datasheet; ComponentLink1URL: http://www.xilinx.com/support/documentation/data_sheets/ds001.pdf; ComponentLink2Description: TQ144 Package Drawing; ComponentLink2URL: http://www.xilinx.com/support/documentation/package_specs/tq144.pdf; ComponentLink3Description: Spartan-II Documents; ComponentLink3URL: http://www.xilinx.com/support/documentation/spartan-ii.htm; ComponentLink4Description: Xilinx.com Home; ComponentLink4URL: http://www.xilinx.com
footprint TQ144_N (Thin QFP, 144-Leads, Body 20x20mm, Pitch 0.5mm, IPC Medium Density)
footprint TQ144_L (Thin QFP, 144-Leads, Body 20x20mm, Pitch 0.5mm, IPC High Density)
footprint TQ144_M (Thin QFP, 144-Leads, Body 20x20mm, Pitch 0.5mm, IPC Low Density)
signal-integrity model XC2S100_TQ144 (Spartan-II)
part A pins: 3 I/O (176) (io), 4 I/O (167) (io), 5 I/O, VREF (155) (io), 6 I/O, VREF (137) (io), 7 I/O (134) (io), 10 I/O (131) (io), 11 I/O (128) (io), 12 I/O, VREF (110) (io), 13 I/O (101) (io)
part B pins: 19 I/O (84) (io), 20 I/O (78) (io), 21 I/O, VREF (69) (io), 22 I/O (51) (io), 23 I/O (48) (io), 26 I/O (45) (io), 27 I/O, VREF (42) (io), 28 I/O, VREF (24) (io), 29 I/O (12) (io), 30 I/O (~{WRITE}) (3) (io), 31 I/O (~{CS}) (0) (io)
part C pins: 38 I/O (DOUT, BUSY) (728) (io), 39 I/O (DIN, D0) (725) (io), 40 I/O (716) (io), 41 I/O, VREF (704) (io), 42 I/O (692) (io), 43 I/O, VREF (686) (io), 44 I/O (D1) (683) (io), 46 I/O (D2) (680) (io), 47 I/O (677) (io), 48 I/O, VREF (659) (io), 49 I/O (D3) (656) (io), 50 I/O (650) (io), 51 I/O, IRDY (641) (io)
part D pins: 54 I/O, TRDY (638) (io), 56 I/O (629) (io), 57 I/O (D4) (623) (io), 58 I/O, VREF (620) (io), 59 I/O (602) (io), 60 I/O (D5) (599) (io), 62 I/O (D6) (596) (io), 63 I/O, VREF (593) (io), 64 I/O (587) (io), 65 I/O, VREF (575) (io), 66 I/O (563) (io), 67 I/O (D7) (554) (io), 68 I/O (~{INIT}) (551) (io)
part E pins: 74 I/O (544) (io), 75 I/O (541) (io), 76 I/O (532) (io), 77 I/O, VREF (520) (io), 78 I/O (508) (io), 79 I/O, VREF (502) (io), 80 I/O (499) (io), 83 I/O (496) (io), 84 I/O (493) (io), 85 I/O, VREF (475) (io), 86 I/O (466) (io), 87 I/O (460) (io)
part F pins: 93 I/O (443) (io), 94 I/O, VREF (434) (io), 95 I/O (416) (io), 96 I/O (413) (io), 99 I/O (410) (io), 100 I/O, VREF (407) (io), 101 I/O (401) (io), 102 I/O, VREF (389) (io), 103 I/O (377) (io)
part G pins: 112 I/O (359) (io), 113 I/O (356) (io), 114 I/O (347) (io), 115 I/O, VREF (335) (io), 116 I/O (323) (io), 117 I/O, VREF (317) (io), 118 I/O (314) (io), 120 I/O (311) (io), 121 I/O (308) (io), 122 I/O, VREF (290) (io), 123 I/O (287) (io), 124 I/O (281) (io), 126 I/O, TRDY (272) (io)
part H pins: 129 I/O, IRDY (269) (io), 130 I/O (260) (io), 131 I/O (254) (io), 132 I/O, VREF (251) (io), 133 I/O (233) (io), 134 I/O (230) (io), 136 I/O (227) (io), 137 I/O, VREF (224) (io), 138 I/O (218) (io), 139 I/O, VREF (206) (io), 140 I/O (194) (io), 141 I/O (185) (io)
part I pins: 15 GCK3 (91) (in), 18 GCK2 (90) (in), 88 GCK0 (456) (in), 91 GCK1 (455) (in)
part J pins: 2 TCK (io), 32 TDI (io), 34 TDO (io), 37 CCLK (731) (io), 69 PROGRAM (550) (in), 72 DONE (547) (io), 104 NC, 105 NC, 106 M2 (364) (in), 109 M0 (363) (in), 111 M1 (362) (in), 142 TMS (io)
part K pins: 1 VCCO (power), 9 VCCINT (power), 14 VCCINT (power), 16 VCCO (power), 24 VCCINT (power), 35 VCCO (power), 36 VCCO (power), 53 VCCO (power), 55 VCCINT (power), 70 VCCO (power), 71 VCCO (power), 82 VCCINT (power), 90 VCCO (power), 92 VCCINT (power), 97 VCCINT (power), 107 VCCO (power), 108 VCCO (power), 125 VCCINT (power), 127 VCCO (power), 144 VCCO (power)
part L pins: 8 GND (power), 17 GND (power), 25 GND (power), 33 GND (power), 45 GND (power), 52 GND (power), 61 GND (power), 73 GND (power), 81 GND (power), 89 GND (power), 98 GND (power), 110 GND (power), 119 GND (power), 128 GND (power), 135 GND (power), 143 GND (power)
part A text: BANK 0
part B text: BANK 1
part C text: BANK 2
part D text: BANK 3
part E text: BANK 4
part F text: BANK 5
part G text: BANK 6
part H text: BANK 7

## XC2S100-5TQ144I
designator U?
Spartan-II 2.5V FPGA, 92 User I/Os, 144-Pin TQFP, Standard Performance, Industrial Grade; Published: 13-Jul-2001; LatestRevisionDate: 16-Nov-2009; LatestRevisionNote: Updated to datasheet version 2.8 Jun-2008.; DatasheetVersion: ver2.8, Jun-2008; PackageVersion: ver1.2, Jun-2004; PackageReference: TQ144; Publisher: Altium Limited; PackageDescription: 144-Pin Thin Quad Flat Pack (TQ144); Supplier 1: Digi-Key; Supplier Part Number 1: XC2S100-5TQ144I-ND; Code_JEDEC: MS-026-BFB; ComponentLink1Description: Spartan-II Datasheet; ComponentLink1URL: http://www.xilinx.com/support/documentation/data_sheets/ds001.pdf; ComponentLink2Description: TQ144 Package Drawing; ComponentLink2URL: http://www.xilinx.com/support/documentation/package_specs/tq144.pdf; ComponentLink3Description: Spartan-II Documents; ComponentLink3URL: http://www.xilinx.com/support/documentation/spartan-ii.htm; ComponentLink4Description: Xilinx.com Home; ComponentLink4URL: http://www.xilinx.com
footprint TQ144_N (Thin QFP, 144-Leads, Body 20x20mm, Pitch 0.5mm, IPC Medium Density)
footprint TQ144_L (Thin QFP, 144-Leads, Body 20x20mm, Pitch 0.5mm, IPC High Density)
footprint TQ144_M (Thin QFP, 144-Leads, Body 20x20mm, Pitch 0.5mm, IPC Low Density)
signal-integrity model XC2S100_TQ144 (Spartan-II)
part A pins: 3 I/O (176) (io), 4 I/O (167) (io), 5 I/O, VREF (155) (io), 6 I/O, VREF (137) (io), 7 I/O (134) (io), 10 I/O (131) (io), 11 I/O (128) (io), 12 I/O, VREF (110) (io), 13 I/O (101) (io)
part B pins: 19 I/O (84) (io), 20 I/O (78) (io), 21 I/O, VREF (69) (io), 22 I/O (51) (io), 23 I/O (48) (io), 26 I/O (45) (io), 27 I/O, VREF (42) (io), 28 I/O, VREF (24) (io), 29 I/O (12) (io), 30 I/O (~{WRITE}) (3) (io), 31 I/O (~{CS}) (0) (io)
part C pins: 38 I/O (DOUT, BUSY) (728) (io), 39 I/O (DIN, D0) (725) (io), 40 I/O (716) (io), 41 I/O, VREF (704) (io), 42 I/O (692) (io), 43 I/O, VREF (686) (io), 44 I/O (D1) (683) (io), 46 I/O (D2) (680) (io), 47 I/O (677) (io), 48 I/O, VREF (659) (io), 49 I/O (D3) (656) (io), 50 I/O (650) (io), 51 I/O, IRDY (641) (io)
part D pins: 54 I/O, TRDY (638) (io), 56 I/O (629) (io), 57 I/O (D4) (623) (io), 58 I/O, VREF (620) (io), 59 I/O (602) (io), 60 I/O (D5) (599) (io), 62 I/O (D6) (596) (io), 63 I/O, VREF (593) (io), 64 I/O (587) (io), 65 I/O, VREF (575) (io), 66 I/O (563) (io), 67 I/O (D7) (554) (io), 68 I/O (~{INIT}) (551) (io)
part E pins: 74 I/O (544) (io), 75 I/O (541) (io), 76 I/O (532) (io), 77 I/O, VREF (520) (io), 78 I/O (508) (io), 79 I/O, VREF (502) (io), 80 I/O (499) (io), 83 I/O (496) (io), 84 I/O (493) (io), 85 I/O, VREF (475) (io), 86 I/O (466) (io), 87 I/O (460) (io)
part F pins: 93 I/O (443) (io), 94 I/O, VREF (434) (io), 95 I/O (416) (io), 96 I/O (413) (io), 99 I/O (410) (io), 100 I/O, VREF (407) (io), 101 I/O (401) (io), 102 I/O, VREF (389) (io), 103 I/O (377) (io)
part G pins: 112 I/O (359) (io), 113 I/O (356) (io), 114 I/O (347) (io), 115 I/O, VREF (335) (io), 116 I/O (323) (io), 117 I/O, VREF (317) (io), 118 I/O (314) (io), 120 I/O (311) (io), 121 I/O (308) (io), 122 I/O, VREF (290) (io), 123 I/O (287) (io), 124 I/O (281) (io), 126 I/O, TRDY (272) (io)
part H pins: 129 I/O, IRDY (269) (io), 130 I/O (260) (io), 131 I/O (254) (io), 132 I/O, VREF (251) (io), 133 I/O (233) (io), 134 I/O (230) (io), 136 I/O (227) (io), 137 I/O, VREF (224) (io), 138 I/O (218) (io), 139 I/O, VREF (206) (io), 140 I/O (194) (io), 141 I/O (185) (io)
part I pins: 15 GCK3 (91) (in), 18 GCK2 (90) (in), 88 GCK0 (456) (in), 91 GCK1 (455) (in)
part J pins: 2 TCK (io), 32 TDI (io), 34 TDO (io), 37 CCLK (731) (io), 69 PROGRAM (550) (in), 72 DONE (547) (io), 104 NC, 105 NC, 106 M2 (364) (in), 109 M0 (363) (in), 111 M1 (362) (in), 142 TMS (io)
part K pins: 1 VCCO (power), 9 VCCINT (power), 14 VCCINT (power), 16 VCCO (power), 24 VCCINT (power), 35 VCCO (power), 36 VCCO (power), 53 VCCO (power), 55 VCCINT (power), 70 VCCO (power), 71 VCCO (power), 82 VCCINT (power), 90 VCCO (power), 92 VCCINT (power), 97 VCCINT (power), 107 VCCO (power), 108 VCCO (power), 125 VCCINT (power), 127 VCCO (power), 144 VCCO (power)
part L pins: 8 GND (power), 17 GND (power), 25 GND (power), 33 GND (power), 45 GND (power), 52 GND (power), 61 GND (power), 73 GND (power), 81 GND (power), 89 GND (power), 98 GND (power), 110 GND (power), 119 GND (power), 128 GND (power), 135 GND (power), 143 GND (power)
part A text: BANK 0
part B text: BANK 1
part C text: BANK 2
part D text: BANK 3
part E text: BANK 4
part F text: BANK 5
part G text: BANK 6
part H text: BANK 7

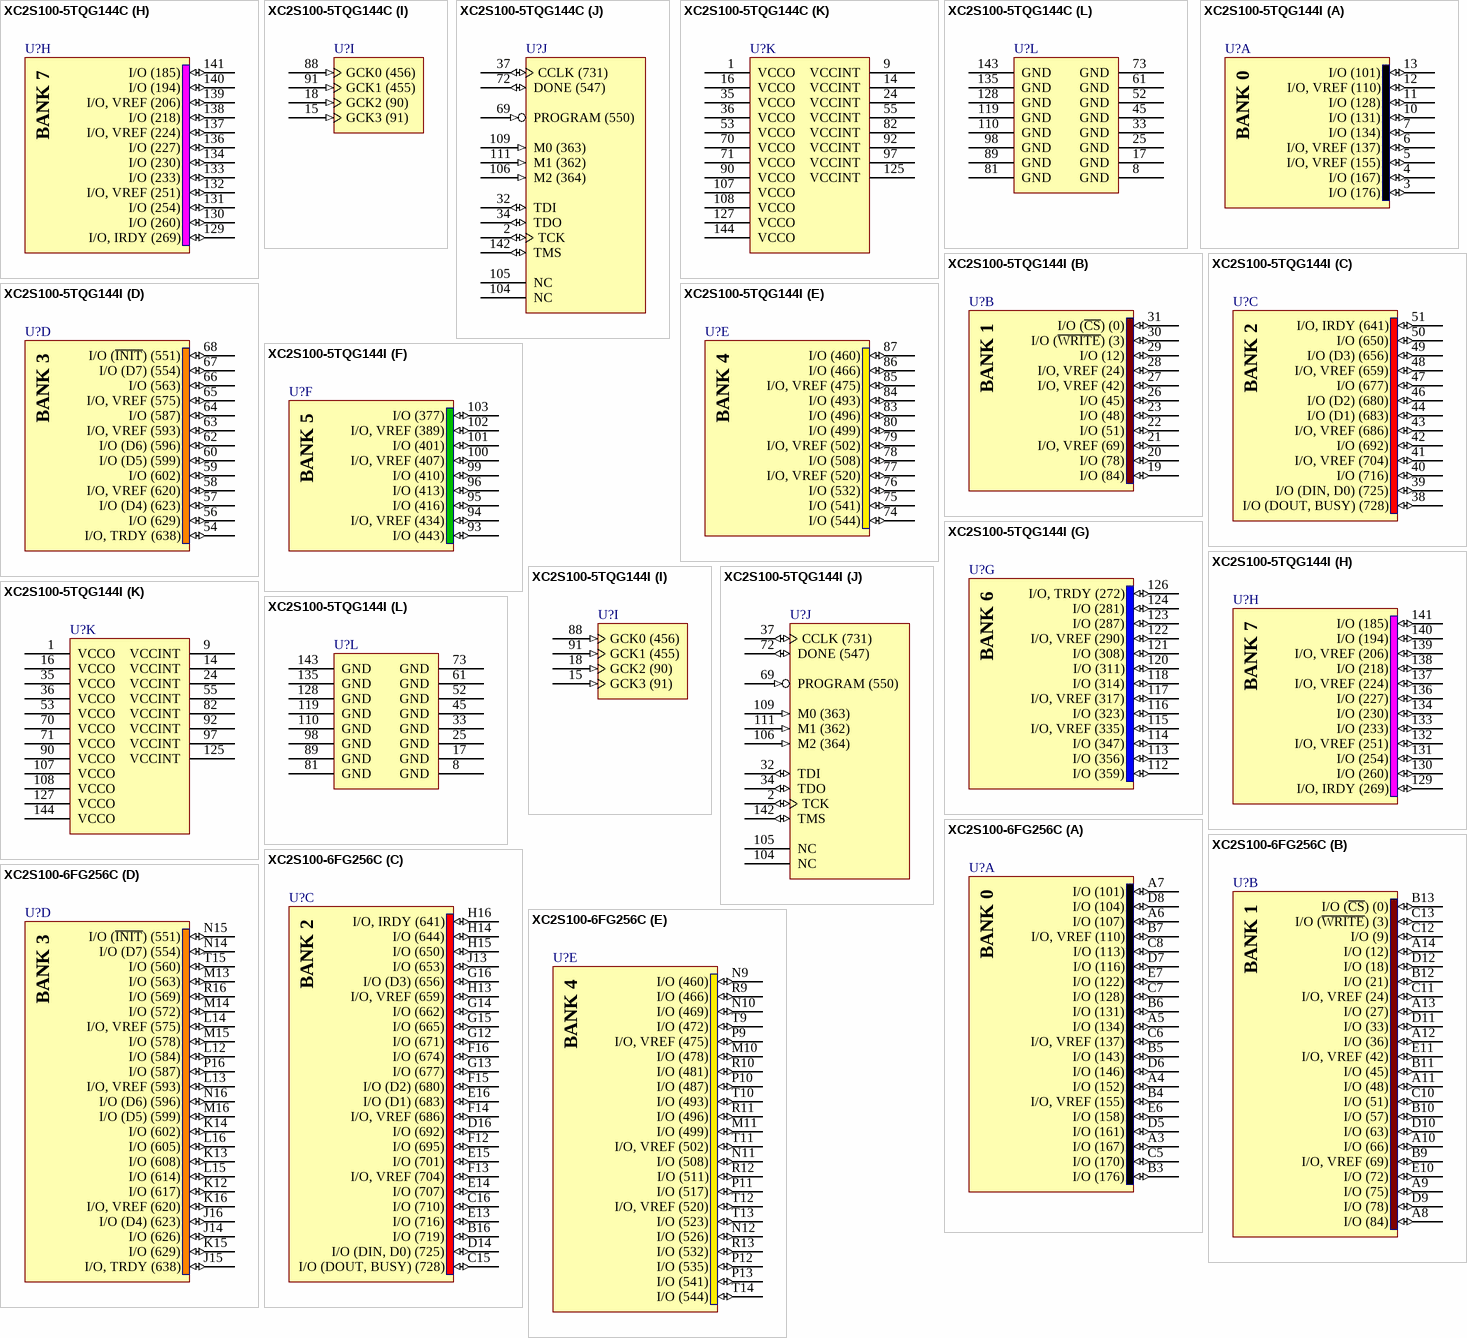
[diagram p37: symbols XC2S100-5TQG144C to XC2S100-6FG256C]

## XC2S100-5TQG144C
designator U?
Spartan-II 2.5V FPGA, 92 User I/Os, 144-Pin TQFP, Standard Performance, Commercial Grade, Pb-Free; Published: 2-Mar-2006; LatestRevisionDate: 16-Nov-2009; LatestRevisionNote: Updated to datasheet version 2.8 Jun-2008.; DatasheetVersion: ver2.8, Jun-2008; PackageVersion: ver1.2, Jun-2004; PackageReference: TQG144; Publisher: Altium Limited; PackageDescription: 144-Pin Thin Quad Flat Pack (TQG144) - Pb-Free; Supplier 1: Digi-Key; Supplier Part Number 1: 122-1305-ND; Code_JEDEC: MS-026-BFB; ComponentLink1Description: Spartan-II Datasheet; ComponentLink1URL: http://www.xilinx.com/support/documentation/data_sheets/ds001.pdf; ComponentLink2Description: TQG144 Package Drawing; ComponentLink2URL: http://www.xilinx.com/support/documentation/package_specs/tq144.pdf; ComponentLink3Description: Spartan-II Documents; ComponentLink3URL: http://www.xilinx.com/support/documentation/spartan-ii.htm; ComponentLink4Description: Xilinx.com Home; ComponentLink4URL: http://www.xilinx.com
footprint TQG144_N (Thin QFP, 144-Leads, Body 20x20mm, Pitch 0.5mm, IPC Medium Density)
footprint TQG144_L (Thin QFP, 144-Leads, Body 20x20mm, Pitch 0.5mm, IPC High Density)
footprint TQG144_M (Thin QFP, 144-Leads, Body 20x20mm, Pitch 0.5mm, IPC Low Density)
signal-integrity model XC2S100_TQG144 (Spartan-II)
part A pins: 3 I/O (176) (io), 4 I/O (167) (io), 5 I/O, VREF (155) (io), 6 I/O, VREF (137) (io), 7 I/O (134) (io), 10 I/O (131) (io), 11 I/O (128) (io), 12 I/O, VREF (110) (io), 13 I/O (101) (io)
part B pins: 19 I/O (84) (io), 20 I/O (78) (io), 21 I/O, VREF (69) (io), 22 I/O (51) (io), 23 I/O (48) (io), 26 I/O (45) (io), 27 I/O, VREF (42) (io), 28 I/O, VREF (24) (io), 29 I/O (12) (io), 30 I/O (~{WRITE}) (3) (io), 31 I/O (~{CS}) (0) (io)
part C pins: 38 I/O (DOUT, BUSY) (728) (io), 39 I/O (DIN, D0) (725) (io), 40 I/O (716) (io), 41 I/O, VREF (704) (io), 42 I/O (692) (io), 43 I/O, VREF (686) (io), 44 I/O (D1) (683) (io), 46 I/O (D2) (680) (io), 47 I/O (677) (io), 48 I/O, VREF (659) (io), 49 I/O (D3) (656) (io), 50 I/O (650) (io), 51 I/O, IRDY (641) (io)
part D pins: 54 I/O, TRDY (638) (io), 56 I/O (629) (io), 57 I/O (D4) (623) (io), 58 I/O, VREF (620) (io), 59 I/O (602) (io), 60 I/O (D5) (599) (io), 62 I/O (D6) (596) (io), 63 I/O, VREF (593) (io), 64 I/O (587) (io), 65 I/O, VREF (575) (io), 66 I/O (563) (io), 67 I/O (D7) (554) (io), 68 I/O (~{INIT}) (551) (io)
part E pins: 74 I/O (544) (io), 75 I/O (541) (io), 76 I/O (532) (io), 77 I/O, VREF (520) (io), 78 I/O (508) (io), 79 I/O, VREF (502) (io), 80 I/O (499) (io), 83 I/O (496) (io), 84 I/O (493) (io), 85 I/O, VREF (475) (io), 86 I/O (466) (io), 87 I/O (460) (io)
part F pins: 93 I/O (443) (io), 94 I/O, VREF (434) (io), 95 I/O (416) (io), 96 I/O (413) (io), 99 I/O (410) (io), 100 I/O, VREF (407) (io), 101 I/O (401) (io), 102 I/O, VREF (389) (io), 103 I/O (377) (io)
part G pins: 112 I/O (359) (io), 113 I/O (356) (io), 114 I/O (347) (io), 115 I/O, VREF (335) (io), 116 I/O (323) (io), 117 I/O, VREF (317) (io), 118 I/O (314) (io), 120 I/O (311) (io), 121 I/O (308) (io), 122 I/O, VREF (290) (io), 123 I/O (287) (io), 124 I/O (281) (io), 126 I/O, TRDY (272) (io)
part H pins: 129 I/O, IRDY (269) (io), 130 I/O (260) (io), 131 I/O (254) (io), 132 I/O, VREF (251) (io), 133 I/O (233) (io), 134 I/O (230) (io), 136 I/O (227) (io), 137 I/O, VREF (224) (io), 138 I/O (218) (io), 139 I/O, VREF (206) (io), 140 I/O (194) (io), 141 I/O (185) (io)
part I pins: 15 GCK3 (91) (in), 18 GCK2 (90) (in), 88 GCK0 (456) (in), 91 GCK1 (455) (in)
part J pins: 2 TCK (io), 32 TDI (io), 34 TDO (io), 37 CCLK (731) (io), 69 PROGRAM (550) (in), 72 DONE (547) (io), 104 NC, 105 NC, 106 M2 (364) (in), 109 M0 (363) (in), 111 M1 (362) (in), 142 TMS (io)
part K pins: 1 VCCO (power), 9 VCCINT (power), 14 VCCINT (power), 16 VCCO (power), 24 VCCINT (power), 35 VCCO (power), 36 VCCO (power), 53 VCCO (power), 55 VCCINT (power), 70 VCCO (power), 71 VCCO (power), 82 VCCINT (power), 90 VCCO (power), 92 VCCINT (power), 97 VCCINT (power), 107 VCCO (power), 108 VCCO (power), 125 VCCINT (power), 127 VCCO (power), 144 VCCO (power)
part L pins: 8 GND (power), 17 GND (power), 25 GND (power), 33 GND (power), 45 GND (power), 52 GND (power), 61 GND (power), 73 GND (power), 81 GND (power), 89 GND (power), 98 GND (power), 110 GND (power), 119 GND (power), 128 GND (power), 135 GND (power), 143 GND (power)
part A text: BANK 0
part B text: BANK 1
part C text: BANK 2
part D text: BANK 3
part E text: BANK 4
part F text: BANK 5
part G text: BANK 6
part H text: BANK 7

## XC2S100-5TQG144I
designator U?
Spartan-II 2.5V FPGA, 92 User I/Os, 144-Pin TQFP, Standard Performance, Industrial Grade, Pb-Free; Published: 2-Mar-2006; LatestRevisionDate: 16-Nov-2009; LatestRevisionNote: Updated to datasheet version 2.8 Jun-2008.; DatasheetVersion: ver2.8, Jun-2008; PackageVersion: ver1.2, Jun-2004; PackageReference: TQG144; Publisher: Altium Limited; PackageDescription: 144-Pin Thin Quad Flat Pack (TQG144) - Pb-Free; Code_JEDEC: MS-026-BFB; ComponentLink1Description: Spartan-II Datasheet; ComponentLink1URL: http://www.xilinx.com/support/documentation/data_sheets/ds001.pdf; ComponentLink2Description: TQG144 Package Drawing; ComponentLink2URL: http://www.xilinx.com/support/documentation/package_specs/tq144.pdf; ComponentLink3Description: Spartan-II Documents; ComponentLink3URL: http://www.xilinx.com/support/documentation/spartan-ii.htm; ComponentLink4Description: Xilinx.com Home; ComponentLink4URL: http://www.xilinx.com
footprint TQG144_N (Thin QFP, 144-Leads, Body 20x20mm, Pitch 0.5mm, IPC Medium Density)
footprint TQG144_L (Thin QFP, 144-Leads, Body 20x20mm, Pitch 0.5mm, IPC High Density)
footprint TQG144_M (Thin QFP, 144-Leads, Body 20x20mm, Pitch 0.5mm, IPC Low Density)
signal-integrity model XC2S100_TQG144 (Spartan-II)
part A pins: 3 I/O (176) (io), 4 I/O (167) (io), 5 I/O, VREF (155) (io), 6 I/O, VREF (137) (io), 7 I/O (134) (io), 10 I/O (131) (io), 11 I/O (128) (io), 12 I/O, VREF (110) (io), 13 I/O (101) (io)
part B pins: 19 I/O (84) (io), 20 I/O (78) (io), 21 I/O, VREF (69) (io), 22 I/O (51) (io), 23 I/O (48) (io), 26 I/O (45) (io), 27 I/O, VREF (42) (io), 28 I/O, VREF (24) (io), 29 I/O (12) (io), 30 I/O (~{WRITE}) (3) (io), 31 I/O (~{CS}) (0) (io)
part C pins: 38 I/O (DOUT, BUSY) (728) (io), 39 I/O (DIN, D0) (725) (io), 40 I/O (716) (io), 41 I/O, VREF (704) (io), 42 I/O (692) (io), 43 I/O, VREF (686) (io), 44 I/O (D1) (683) (io), 46 I/O (D2) (680) (io), 47 I/O (677) (io), 48 I/O, VREF (659) (io), 49 I/O (D3) (656) (io), 50 I/O (650) (io), 51 I/O, IRDY (641) (io)
part D pins: 54 I/O, TRDY (638) (io), 56 I/O (629) (io), 57 I/O (D4) (623) (io), 58 I/O, VREF (620) (io), 59 I/O (602) (io), 60 I/O (D5) (599) (io), 62 I/O (D6) (596) (io), 63 I/O, VREF (593) (io), 64 I/O (587) (io), 65 I/O, VREF (575) (io), 66 I/O (563) (io), 67 I/O (D7) (554) (io), 68 I/O (~{INIT}) (551) (io)
part E pins: 74 I/O (544) (io), 75 I/O (541) (io), 76 I/O (532) (io), 77 I/O, VREF (520) (io), 78 I/O (508) (io), 79 I/O, VREF (502) (io), 80 I/O (499) (io), 83 I/O (496) (io), 84 I/O (493) (io), 85 I/O, VREF (475) (io), 86 I/O (466) (io), 87 I/O (460) (io)
part F pins: 93 I/O (443) (io), 94 I/O, VREF (434) (io), 95 I/O (416) (io), 96 I/O (413) (io), 99 I/O (410) (io), 100 I/O, VREF (407) (io), 101 I/O (401) (io), 102 I/O, VREF (389) (io), 103 I/O (377) (io)
part G pins: 112 I/O (359) (io), 113 I/O (356) (io), 114 I/O (347) (io), 115 I/O, VREF (335) (io), 116 I/O (323) (io), 117 I/O, VREF (317) (io), 118 I/O (314) (io), 120 I/O (311) (io), 121 I/O (308) (io), 122 I/O, VREF (290) (io), 123 I/O (287) (io), 124 I/O (281) (io), 126 I/O, TRDY (272) (io)
part H pins: 129 I/O, IRDY (269) (io), 130 I/O (260) (io), 131 I/O (254) (io), 132 I/O, VREF (251) (io), 133 I/O (233) (io), 134 I/O (230) (io), 136 I/O (227) (io), 137 I/O, VREF (224) (io), 138 I/O (218) (io), 139 I/O, VREF (206) (io), 140 I/O (194) (io), 141 I/O (185) (io)
part I pins: 15 GCK3 (91) (in), 18 GCK2 (90) (in), 88 GCK0 (456) (in), 91 GCK1 (455) (in)
part J pins: 2 TCK (io), 32 TDI (io), 34 TDO (io), 37 CCLK (731) (io), 69 PROGRAM (550) (in), 72 DONE (547) (io), 104 NC, 105 NC, 106 M2 (364) (in), 109 M0 (363) (in), 111 M1 (362) (in), 142 TMS (io)
part K pins: 1 VCCO (power), 9 VCCINT (power), 14 VCCINT (power), 16 VCCO (power), 24 VCCINT (power), 35 VCCO (power), 36 VCCO (power), 53 VCCO (power), 55 VCCINT (power), 70 VCCO (power), 71 VCCO (power), 82 VCCINT (power), 90 VCCO (power), 92 VCCINT (power), 97 VCCINT (power), 107 VCCO (power), 108 VCCO (power), 125 VCCINT (power), 127 VCCO (power), 144 VCCO (power)
part L pins: 8 GND (power), 17 GND (power), 25 GND (power), 33 GND (power), 45 GND (power), 52 GND (power), 61 GND (power), 73 GND (power), 81 GND (power), 89 GND (power), 98 GND (power), 110 GND (power), 119 GND (power), 128 GND (power), 135 GND (power), 143 GND (power)
part A text: BANK 0
part B text: BANK 1
part C text: BANK 2
part D text: BANK 3
part E text: BANK 4
part F text: BANK 5
part G text: BANK 6
part H text: BANK 7

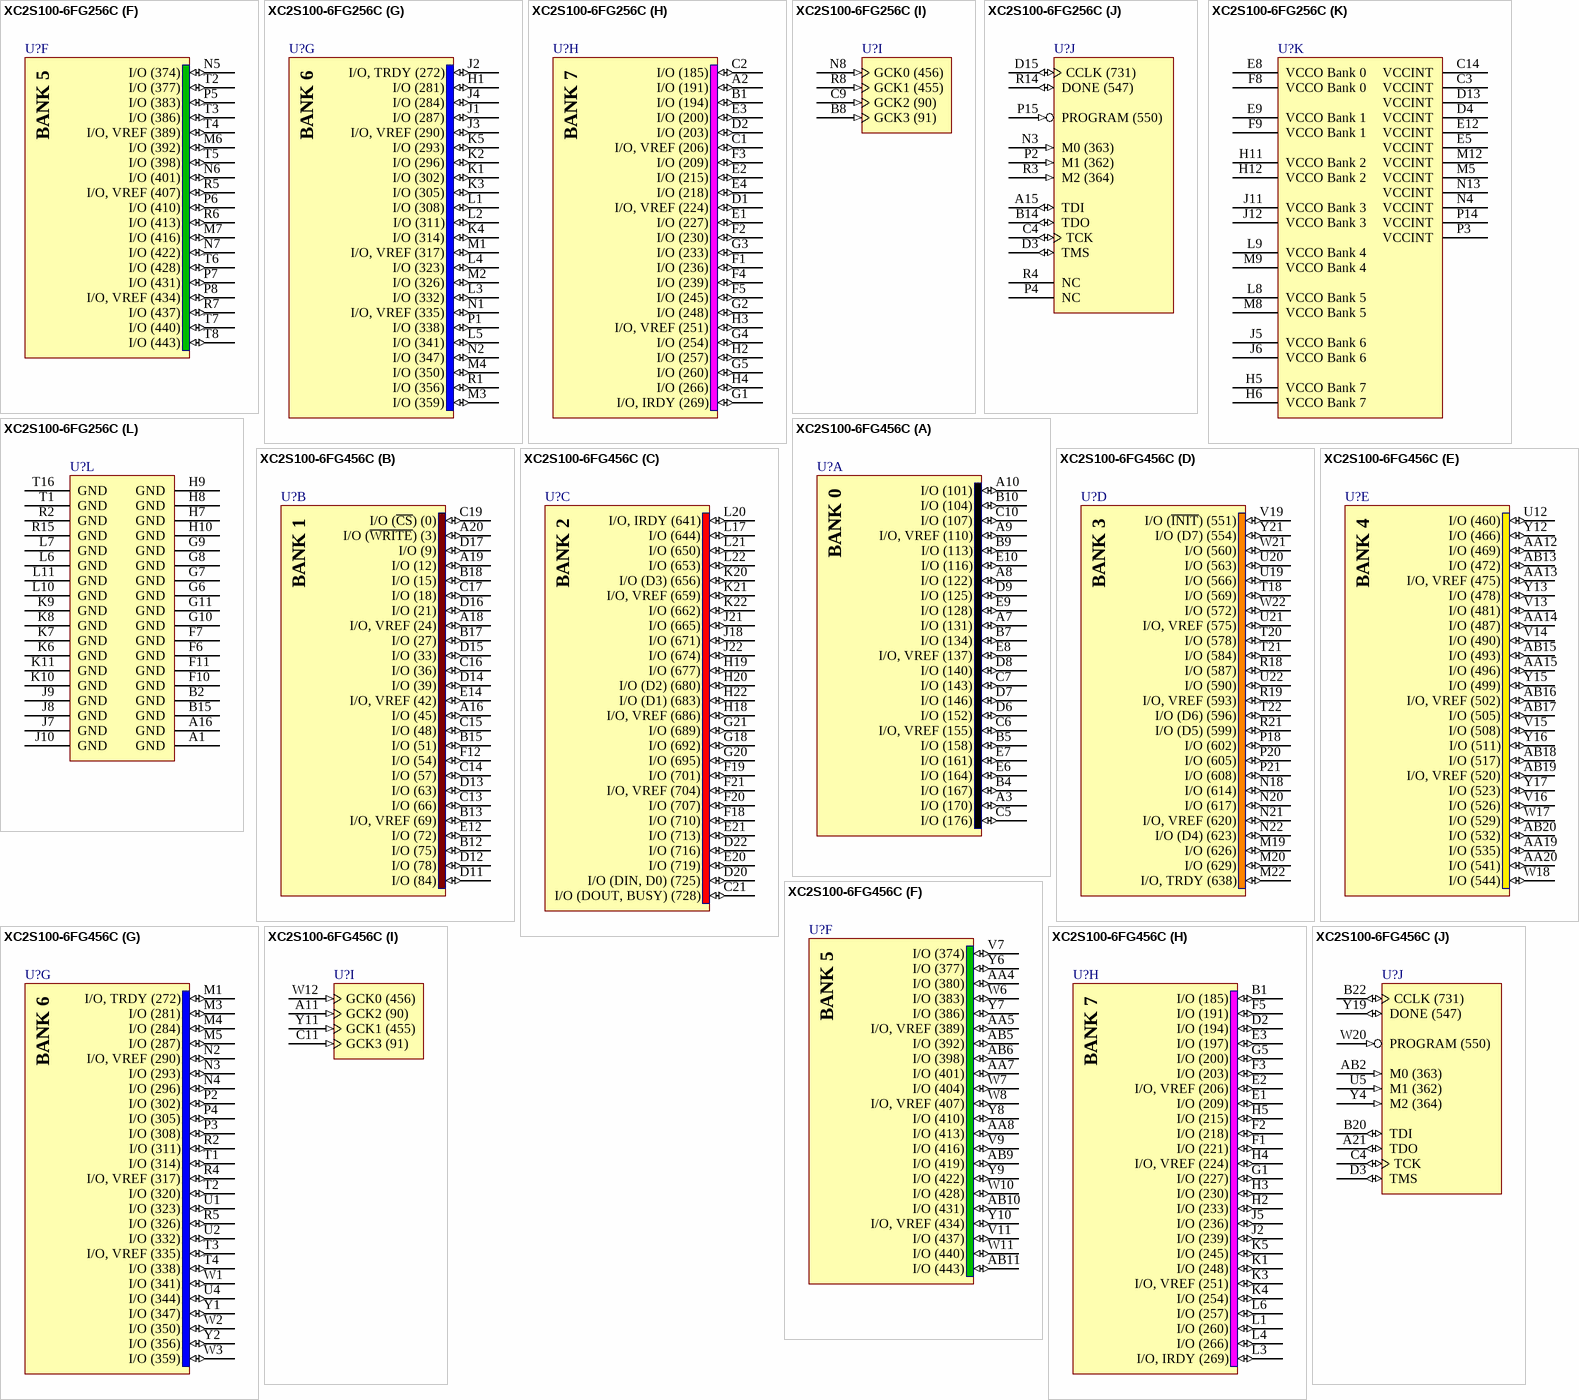
[diagram p38: symbols XC2S100-6FG256C to XC2S100-6FG456C]

## XC2S100-6FG256C
designator U?
Spartan-II 2.5V FPGA, 176 User I/Os, 256-Ball FBGA, Higher Performance, Commercial Grade; Published: 13-Jul-2001; LatestRevisionDate: 16-Nov-2009; LatestRevisionNote: Updated to datasheet version 2.8 Jun-2008.; DatasheetVersion: ver2.8, Jun-2008; PackageVersion: ver1.2.1, Apr-2005; PackageReference: FG256; Publisher: Altium Limited; PackageDescription: 256-Ball Fine Pitch Ball Grid Array (FG256); Supplier 1: Digi-Key; Supplier Part Number 1: XC2S100-6FG256C-ND; Code_JEDEC: MO-151-AAF-1; Code_IPC: BGA100P16X16-256; ComponentLink1Description: Spartan-II Datasheet; ComponentLink1URL: http://www.xilinx.com/support/documentation/data_sheets/ds001.pdf; ComponentLink2Description: FG256 Package Drawing; ComponentLink2URL: http://www.xilinx.com/support/documentation/package_specs/fg256.pdf; ComponentLink3Description: Spartan-II Documents; ComponentLink3URL: http://www.xilinx.com/support/documentation/spartan-ii.htm; ComponentLink4Description: Xilinx.com Home; ComponentLink4URL: http://www.xilinx.com
footprint FG256 (BGA, 256-Leads, Body 17x17mm, Pitch 1mm)
signal-integrity model XC2S100_FG256 (Spartan-II)
part A pins: A3 I/O (167) (io), A4 I/O (152) (io), A5 I/O (134) (io), A6 I/O (107) (io), A7 I/O (101) (io), B3 I/O (176) (io), B4 I/O, VREF (155) (io), B5 I/O (143) (io), B6 I/O (131) (io), B7 I/O, VREF (110) (io), C5 I/O (170) (io), C6 I/O, VREF (137) (io), C7 I/O (128) (io), C8 I/O (113) (io), D5 I/O (161) (io), D6 I/O (146) (io), D7 I/O (116) (io), D8 I/O (104) (io), E6 I/O (158) (io), E7 I/O (122) (io)
part B pins: A8 I/O (84) (io), A9 I/O (75) (io), A10 I/O (66) (io), A11 I/O (48) (io), A12 I/O (36) (io), A13 I/O (27) (io), A14 I/O (12) (io), B9 I/O, VREF (69) (io), B10 I/O (57) (io), B11 I/O (45) (io), B12 I/O (21) (io), B13 I/O (~{CS}) (0) (io), C10 I/O (51) (io), C11 I/O, VREF (24) (io), C12 I/O (9) (io), C13 I/O (~{WRITE}) (3) (io), D9 I/O (78) (io), D10 I/O (63) (io), D11 I/O (33) (io), D12 I/O (18) (io), E10 I/O (72) (io), E11 I/O, VREF (42) (io)
part C pins: B16 I/O (719) (io), C15 I/O (DOUT, BUSY) (728) (io), C16 I/O (710) (io), D14 I/O (DIN, D0) (725) (io), D16 I/O (692) (io), E13 I/O (716) (io), E14 I/O (707) (io), E15 I/O (701) (io), E16 I/O (D1) (683) (io), F12 I/O (695) (io), F13 I/O, VREF (704) (io), F14 I/O, VREF (686) (io), F15 I/O (D2) (680) (io), F16 I/O (674) (io), G12 I/O (671) (io), G13 I/O (677) (io), G14 I/O (662) (io), G15 I/O (665) (io), G16 I/O (D3) (656) (io), H13 I/O, VREF (659) (io), H14 I/O (644) (io), H15 I/O (650) (io), H16 I/O, IRDY (641) (io), J13 I/O (653) (io)
part D pins: J14 I/O (626) (io), J15 I/O, TRDY (638) (io), J16 I/O (D4) (623) (io), K12 I/O (617) (io), K13 I/O (608) (io), K14 I/O (602) (io), K15 I/O (629) (io), K16 I/O, VREF (620) (io), L12 I/O (584) (io), L13 I/O, VREF (593) (io), L14 I/O, VREF (575) (io), L15 I/O (614) (io), L16 I/O (605) (io), M13 I/O (563) (io), M14 I/O (572) (io), M15 I/O (578) (io), M16 I/O (D5) (599) (io), N14 I/O (D7) (554) (io), N15 I/O (~{INIT}) (551) (io), N16 I/O (D6) (596) (io), P16 I/O (587) (io), R16 I/O (569) (io), T15 I/O (560) (io)
part E pins: M10 I/O (478) (io), M11 I/O (499) (io), N9 I/O (460) (io), N10 I/O (469) (io), N11 I/O (508) (io), N12 I/O (526) (io), P9 I/O, VREF (475) (io), P10 I/O (487) (io), P11 I/O (517) (io), P12 I/O (535) (io), P13 I/O (541) (io), R9 I/O (466) (io), R10 I/O (481) (io), R11 I/O (496) (io), R12 I/O (511) (io), R13 I/O (532) (io), T9 I/O (472) (io), T10 I/O (493) (io), T11 I/O, VREF (502) (io), T12 I/O, VREF (520) (io), T13 I/O (523) (io), T14 I/O (544) (io)
part F pins: M6 I/O (392) (io), M7 I/O (416) (io), N5 I/O (374) (io), N6 I/O (401) (io), N7 I/O (422) (io), P5 I/O (383) (io), P6 I/O (410) (io), P7 I/O (431) (io), P8 I/O, VREF (434) (io), R5 I/O, VREF (407) (io), R6 I/O (413) (io), R7 I/O (437) (io), T2 I/O (377) (io), T3 I/O (386) (io), T4 I/O, VREF (389) (io), T5 I/O (398) (io), T6 I/O (428) (io), T7 I/O (440) (io), T8 I/O (443) (io)
part G pins: H1 I/O (281) (io), J1 I/O (287) (io), J2 I/O, TRDY (272) (io), J3 I/O, VREF (290) (io), J4 I/O (284) (io), K1 I/O (302) (io), K2 I/O (296) (io), K3 I/O (305) (io), K4 I/O (314) (io), K5 I/O (293) (io), L1 I/O (308) (io), L2 I/O (311) (io), L3 I/O (332) (io), L4 I/O (323) (io), L5 I/O (341) (io), M1 I/O, VREF (317) (io), M2 I/O (326) (io), M3 I/O (359) (io), M4 I/O (350) (io), N1 I/O, VREF (335) (io), N2 I/O (347) (io), P1 I/O (338) (io), R1 I/O (356) (io)
part H pins: A2 I/O (191) (io), B1 I/O (194) (io), C1 I/O, VREF (206) (io), C2 I/O (185) (io), D1 I/O, VREF (224) (io), D2 I/O (203) (io), E1 I/O (227) (io), E2 I/O (215) (io), E3 I/O (200) (io), E4 I/O (218) (io), F1 I/O (236) (io), F2 I/O (230) (io), F3 I/O (209) (io), F4 I/O (239) (io), F5 I/O (245) (io), G1 I/O, IRDY (269) (io), G2 I/O (248) (io), G3 I/O (233) (io), G4 I/O (254) (io), G5 I/O (260) (io), H2 I/O (257) (io), H3 I/O, VREF (251) (io), H4 I/O (266) (io)
part I pins: B8 GCK3 (91) (in), C9 GCK2 (90) (in), N8 GCK0 (456) (in), R8 GCK1 (455) (in)
part J pins: A15 TDI (io), B14 TDO (io), C4 TCK (io), D3 TMS (io), D15 CCLK (731) (io), N3 M0 (363) (in), P2 M1 (362) (in), P4 NC, P15 PROGRAM (550) (in), R3 M2 (364) (in), R4 NC, R14 DONE (547) (io)
part K pins: C3 VCCINT (power), C14 VCCINT (power), D4 VCCINT (power), D13 VCCINT (power), E5 VCCINT (power), E8 VCCO Bank 0 (power), E9 VCCO Bank 1 (power), E12 VCCINT (power), F8 VCCO Bank 0 (power), F9 VCCO Bank 1 (power), H5 VCCO Bank 7 (power), H6 VCCO Bank 7 (power), H11 VCCO Bank 2 (power), H12 VCCO Bank 2 (power), J5 VCCO Bank 6 (power), J6 VCCO Bank 6 (power), J11 VCCO Bank 3 (power), J12 VCCO Bank 3 (power), L8 VCCO Bank 5 (power), L9 VCCO Bank 4 (power), M5 VCCINT (power), M8 VCCO Bank 5 (power), M9 VCCO Bank 4 (power), M12 VCCINT (power), N4 VCCINT (power), N13 VCCINT (power), P3 VCCINT (power), P14 VCCINT (power)
part L pins: A1 GND (power), A16 GND (power), B2 GND (power), B15 GND (power), F6 GND (power), F7 GND (power), F10 GND (power), F11 GND (power), G6 GND (power), G7 GND (power), G8 GND (power), G9 GND (power), G10 GND (power), G11 GND (power), H7 GND (power), H8 GND (power), H9 GND (power), H10 GND (power), J7 GND (power), J8 GND (power), J9 GND (power), J10 GND (power), K6 GND (power), K7 GND (power), K8 GND (power), K9 GND (power), K10 GND (power), K11 GND (power), L6 GND (power), L7 GND (power), L10 GND (power), L11 GND (power), R2 GND (power), R15 GND (power), T1 GND (power), T16 GND (power)
part A text: BANK 0
part B text: BANK 1
part C text: BANK 2
part D text: BANK 3
part E text: BANK 4
part F text: BANK 5
part G text: BANK 6
part H text: BANK 7

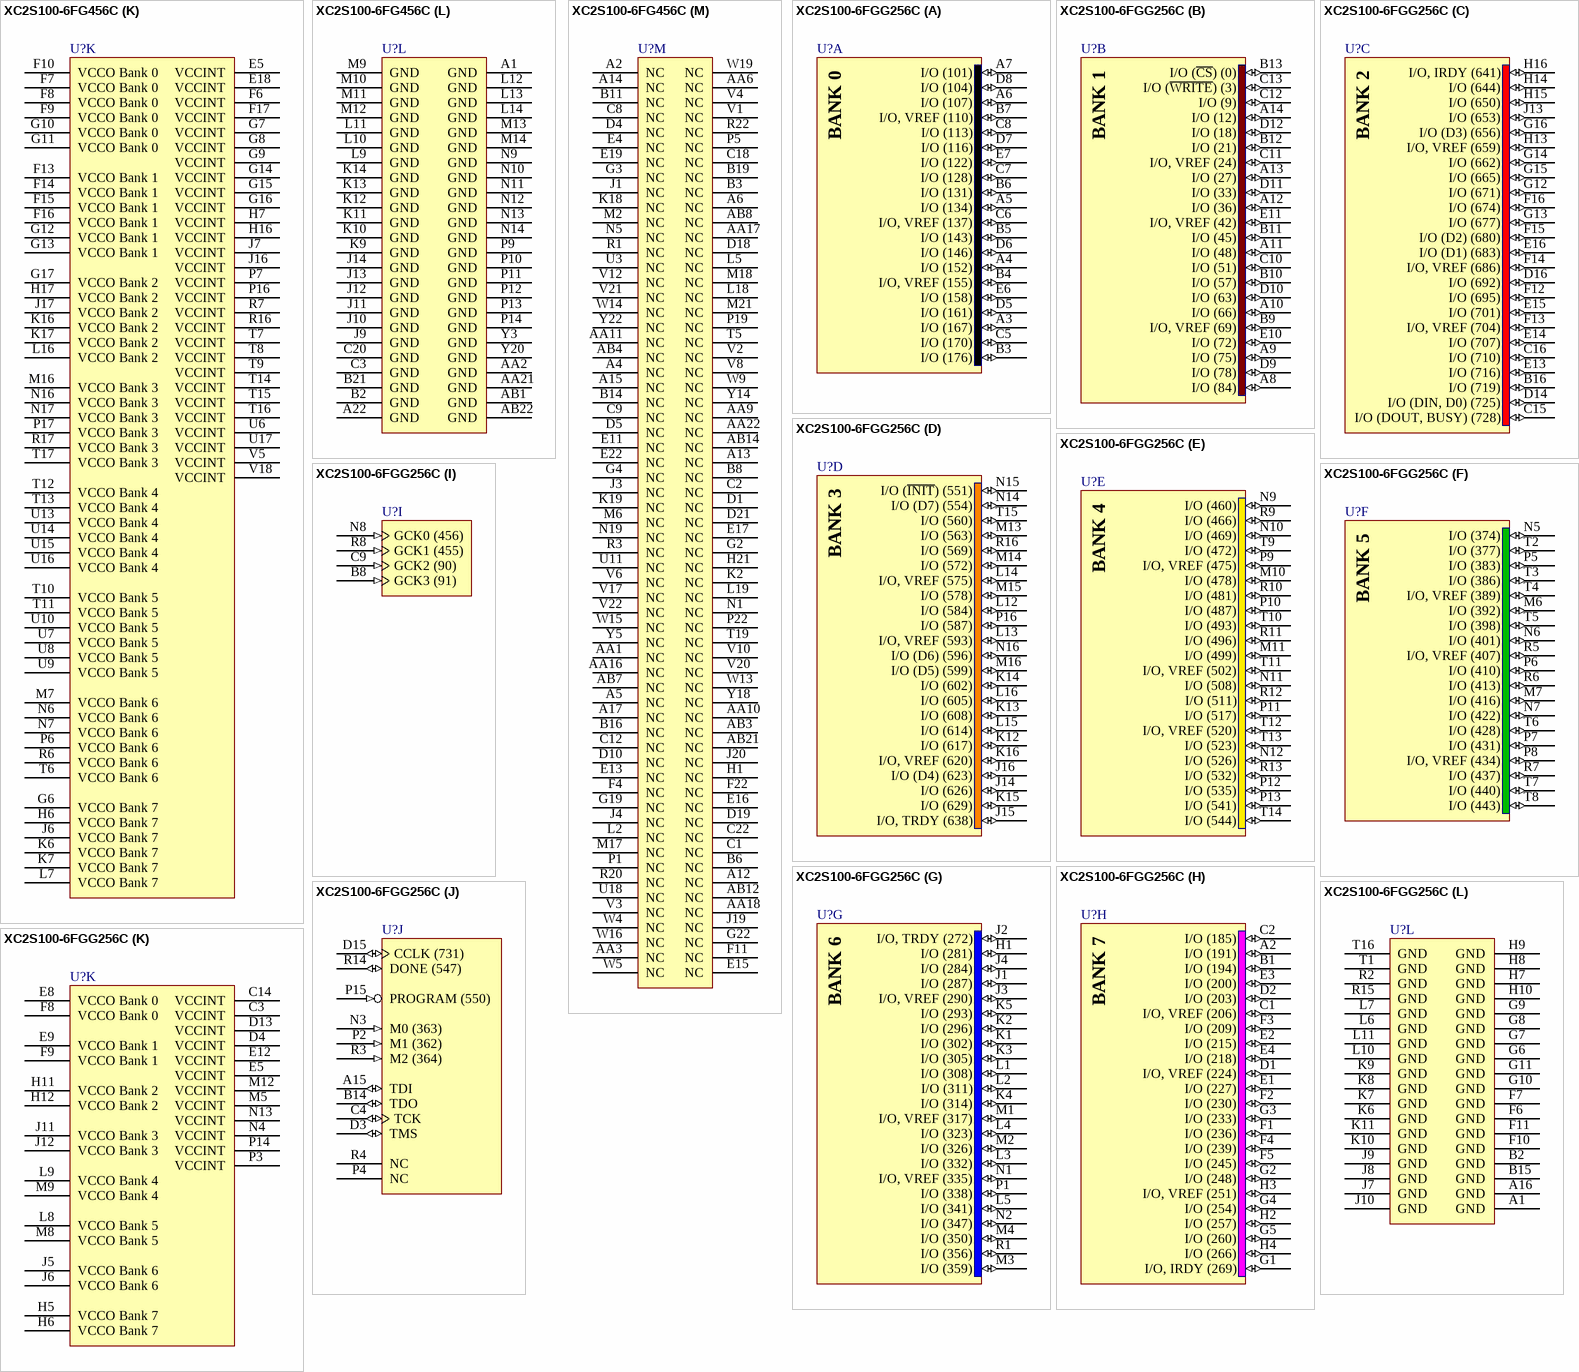
[diagram p39: symbols XC2S100-6FG456C to XC2S100-6FGG256C]